# Altium schematic symbol library SG_SCH_MCU_Logics.SchLib: 63 symbols
Pins are listed as number, name and electrical type; pins without a type are passive.

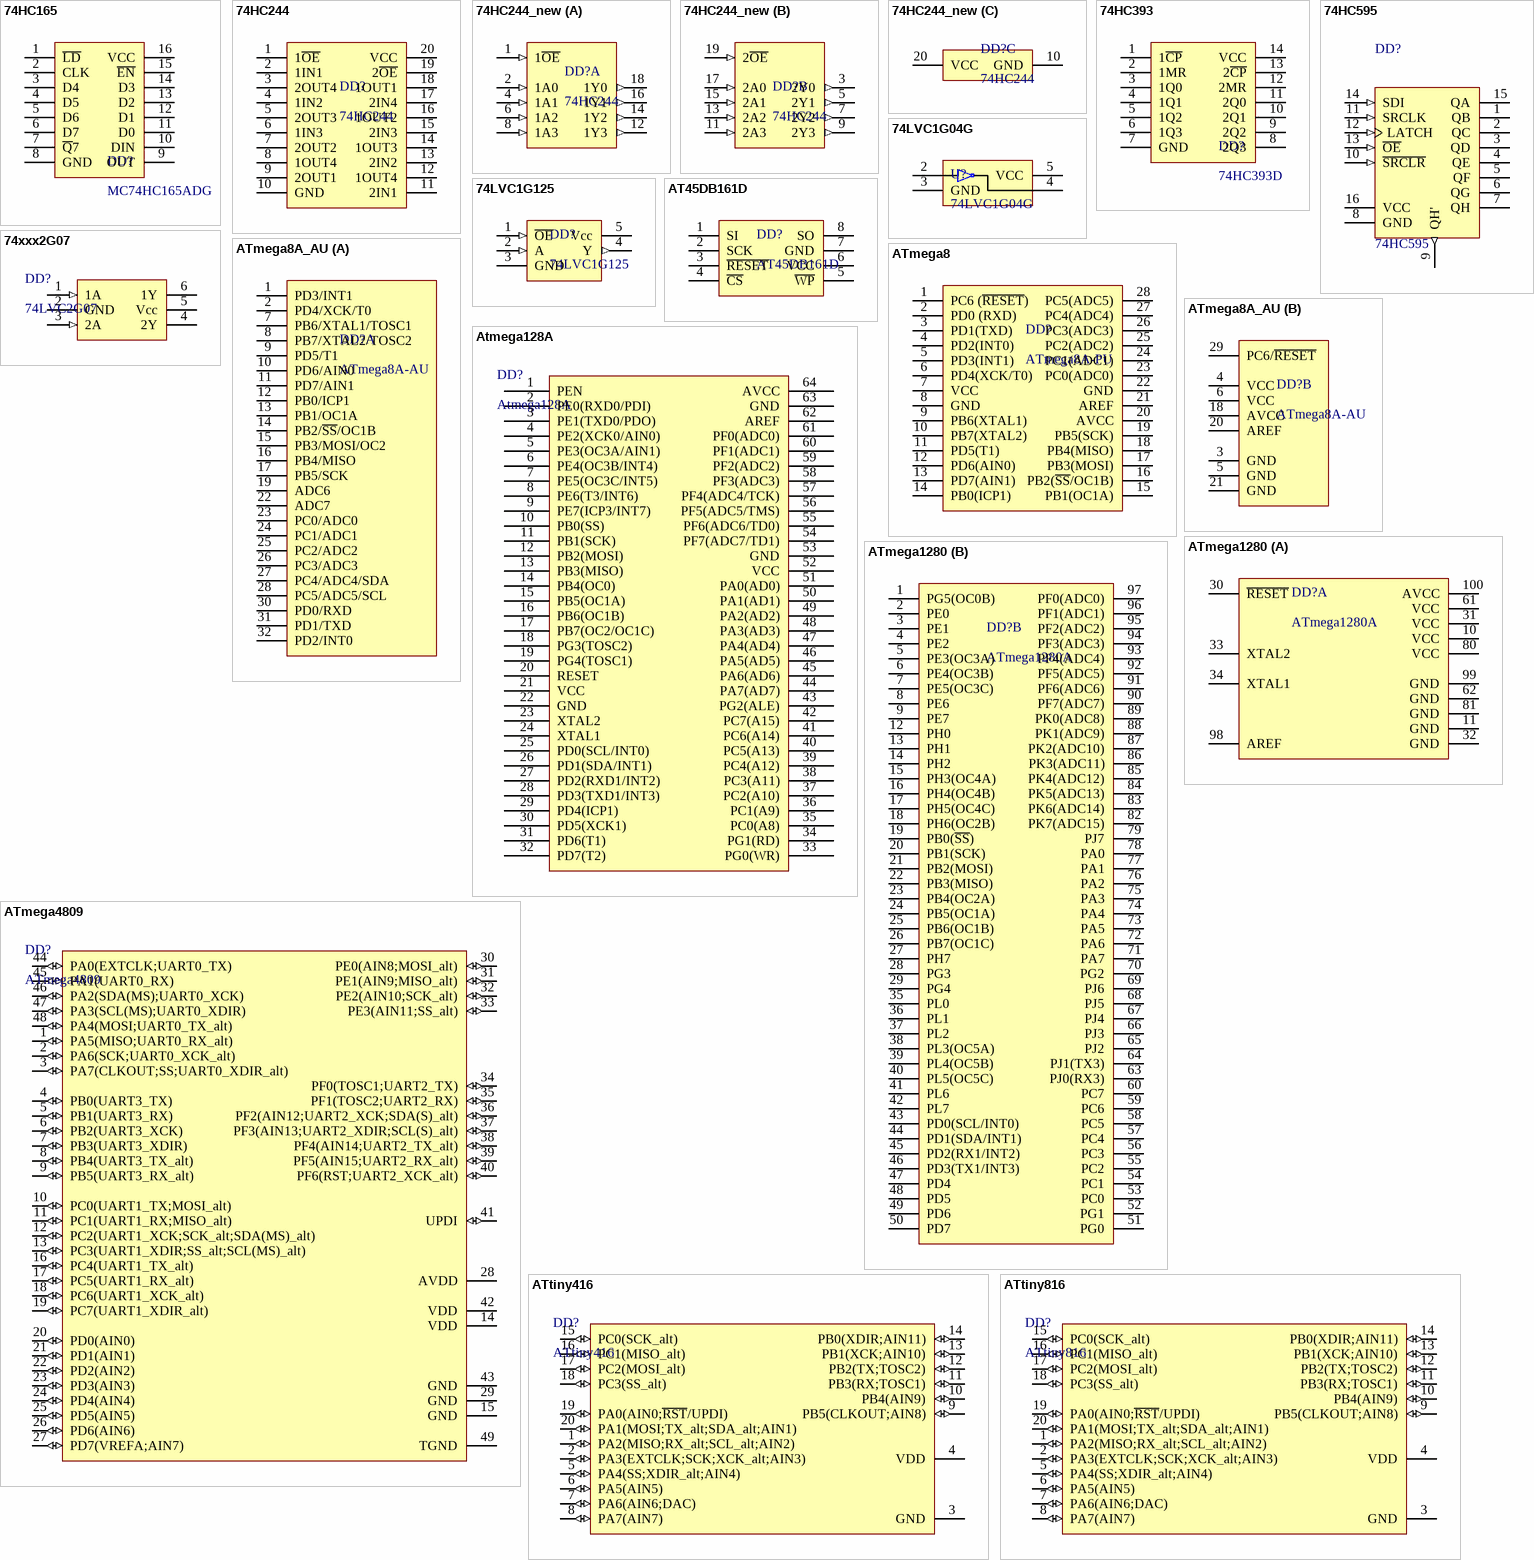
[diagram p0: symbols 74HC165 to ATtiny816]

## 74HC165
designator DD?, comment MC74HC165ADG
shift parallel to serial register; OriginalSource: AltTab; DefaultOrder: MC74HC165ADG; Order: *
footprint SO-16
pins: 1 ~{LD}, 2 CLK, 3 D4, 4 D5, 5 D6, 6 D7, 7 ~{Q}7, 8 GND, 9 OUT, 10 DIN, 11 D0, 12 D1, 13 D2, 14 D3, 15 ~{EN}, 16 VCC

## 74HC244
designator DD?
2 4bit logic buffers; OriginalSource: AltTab; Order: *
footprint SO-20_300mil
pins: 1 1~{OE}, 2 1IN1, 3 2OUT4, 4 1IN2, 5 2OUT3, 6 1IN3, 7 2OUT2, 8 1OUT4, 9 2OUT1, 10 GND, 11 2IN1, 12 1OUT4, 13 2IN2, 14 1OUT3, 15 2IN3, 16 1OUT2, 17 2IN4, 18 1OUT1, 19 2~{OE}, 20 VCC

## 74HC244_new
designator DD?, comment 74HC244
Hex Buffers And Line Drivers With 3-State Outputs; Order: *74HC244PW
footprint TSSOP-20
part A pins: 1 1~{OE} (in), 2 1A0 (in), 4 1A1 (in), 6 1A2 (in), 8 1A3 (in), 12 1Y3 (out), 14 1Y2 (out), 16 1Y1 (out), 18 1Y0 (out)
part B pins: 3 2Y0 (out), 5 2Y1 (out), 7 2Y2 (out), 9 2Y3 (out), 11 2A3 (in), 13 2A2 (in), 15 2A1 (in), 17 2A0 (in), 19 2~{OE} (in)
part C pins: 10 GND (power), 20 VCC (power)

## 74HC393
designator DD?, comment 74HC393D
2x4p counter; OriginalSource: AltTab; DefaultOrder: 74HC393D; Order: *
footprint SO-14
pins: 1 1~{CP}, 2 1MR, 3 1Q0, 4 1Q1, 5 1Q2, 6 1Q3, 7 GND, 8 2Q3, 9 2Q2, 10 2Q1, 11 2Q0, 12 2MR, 13 2~{CP}, 14 VCC

## 74HC595
designator DD?
8-Bit Shift Register with 3-State Output Registers; OriginalSource: AltTab; Order: *
footprint SO-16
footprint TSSOP-16
pins: 1 QB (hiz), 2 QC (hiz), 3 QD (hiz), 4 QE (hiz), 5 QF (hiz), 6 QG (hiz), 7 QH (hiz), 8 GND (power), 9 QH' (out), 10 ~{SRCLR} (in), 11 SRCLK (in), 12 LATCH (in), 13 ~{OE} (in), 14 SDI (in), 15 QA (hiz), 16 VCC (power)

## 74LVC1G04G
designator U?
NOT; DefaultOrder: 74LVC1G04GV.125; OriginalSource: AltTab; Order: *
footprint SOT753 (SOT23, 5-Leads, Body 3,1x3,0mm (max), Pitch 0,95mm, IPC Medium Density)
pins: 2 A, 3 GND, 4 Y, 5 VCC

## 74LVC1G125
designator DD?
SINGLE BUS BUFFER GATE WITH 3-STATE OUTPUT; Order: *SN74LVC1G125DBV; HelpURL: static.chipdip.ru/lib/092/DOC001092304.pdf
footprint SOT23-5
pins: 1 ~{OE} (in), 2 A (in), 3 GND (power), 4 Y (out), 5 Vcc (power)

## 74xxx2G07
designator DD?, comment 74LVC2G07
Dual Buffer and Driver With Open-Drain Outputs; DefaultOrder: SN74LVC2G07DC; PackageDrawing: DCK; OriginalSource: AltTab; Order: *
footprint SC-70-6 (Footprint not found)
pins: 1 1A (in), 2 GND (power), 3 2A (in), 4 2Y (oc), 5 Vcc (power), 6 1Y (oc)

## AT45DB161D
designator DD?
16megabit memory; OriginalSource: AltTab; DefaultOrder: AT45DB161D; Order: *
footprint SO-8 (Small Outline; 8 Leads; Body Width 3.9 mm; Pitch 1.27 mm)
pins: 1 SI, 2 SCK, 3 ~{RESET}, 4 ~{CS}, 5 ~{WP}, 6 VCC, 7 GND, 8 SO

## ATmega8
designator DD?, comment ATmega8A-PU
AVR 8-bit MCU; OriginalSource: AltTab; DefaultOrder: ATmega8A-PU; Order: *
footprint DIP-28 (Footprint not found)
pins: 1 PC6 (~{RESET}), 2 PD0 (RXD), 3 PD1(TXD), 4 PD2(INT0), 5 PD3(INT1), 6 PD4(XCK/T0), 7 VCC, 8 GND, 9 PB6(XTAL1), 10 PB7(XTAL2), 11 PD5(T1), 12 PD6(AIN0), 13 PD7(AIN1), 14 PB0(ICP1), 15 PB1(OC1A), 16 PB2(~{SS}/OC1B), 17 PB3(MOSI), 18 PB4(MISO), 19 PB5(SCK), 20 AVCC, 21 AREF, 22 GND, 23 PC0(ADC0), 24 PC1(ADC1), 25 PC2(ADC2), 26 PC3(ADC3), 27 PC4(ADC4), 28 PC5(ADC5)

## ATmega8A_AU
designator DD?, comment ATmega8A-AU
AVR 8-bit MCU; OriginalSource: AltTab; DefaultOrder: ATmega8A-AU; Order: *
footprint TQFP-32 (Footprint not found)
part A pins: 1 PD3/INT1, 2 PD4/XCK/T0, 7 PB6/XTAL1/TOSC1, 8 PB7/XTAL2/TOSC2, 9 PD5/T1, 10 PD6/AIN0, 11 PD7/AIN1, 12 PB0/ICP1, 13 PB1/OC1A, 14 PB2/~{SS}/OC1B, 15 PB3/MOSI/OC2, 16 PB4/MISO, 17 PB5/SCK, 19 ADC6, 22 ADC7, 23 PC0/ADC0, 24 PC1/ADC1, 25 PC2/ADC2, 26 PC3/ADC3, 27 PC4/ADC4/SDA, 28 PC5/ADC5/SCL, 30 PD0/RXD, 31 PD1/TXD, 32 PD2/INT0
part B pins: 3 GND, 4 VCC, 5 GND, 6 VCC, 18 AVCC, 20 AREF, 21 GND, 29 PC6/~{RESET}

## Atmega128A
designator DD?
!proverka, AVR 8-bit MCU; OriginalSource: AltTab
pins: 1 PEN, 2 PE0(RXD0/PDI), 3 PE1(TXD0/PDO), 4 PE2(XCK0/AIN0), 5 PE3(OC3A/AIN1), 6 PE4(OC3B/INT4), 7 PE5(OC3C/INT5), 8 PE6(T3/INT6), 9 PE7(ICP3/INT7), 10 PB0(SS), 11 PB1(SCK), 12 PB2(MOSI), 13 PB3(MISO), 14 PB4(OC0), 15 PB5(OC1A), 16 PB6(OC1B), 17 PB7(OC2/OC1C), 18 PG3(TOSC2), 19 PG4(TOSC1), 20 RESET, 21 VCC, 22 GND, 23 XTAL2, 24 XTAL1, 25 PD0(SCL/INT0), 26 PD1(SDA/INT1), 27 PD2(RXD1/INT2), 28 PD3(TXD1/INT3), 29 PD4(ICP1), 30 PD5(XCK1), 31 PD6(T1), 32 PD7(T2), 33 PG0(WR), 34 PG1(RD), 35 PC0(A8), 36 PC1(A9), 37 PC2(A10), 38 PC3(A11), 39 PC4(A12), 40 PC5(A13), 41 PC6(A14), 42 PC7(A15), 43 PG2(ALE), 44 PA7(AD7), 45 PA6(AD6), 46 PA5(AD5), 47 PA4(AD4), 48 PA3(AD3), 49 PA2(AD2), 50 PA1(AD1), 51 PA0(AD0), 52 VCC, 53 GND, 54 PF7(ADC7/TD1), 55 PF6(ADC6/TD0), 56 PF5(ADC5/TMS), 57 PF4(ADC4/TCK), 58 PF3(ADC3), 59 PF2(ADC2), 60 PF1(ADC1), 61 PF0(ADC0), 62 AREF, 63 GND, 64 AVCC

## ATmega1280
designator DD?, comment ATmega1280A
8bit mcu; DefaultOrder: ATmega1280-16AU; OriginalSource: AltTab; Order: *
footprint TQFP-100 (Footprint not found)
part A pins: 10 VCC, 11 GND, 30 ~{RESET}, 31 VCC, 32 GND, 33 XTAL2, 34 XTAL1, 61 VCC, 62 GND, 80 VCC, 81 GND, 98 AREF, 99 GND, 100 AVCC
part B pins: 1 PG5(OC0B), 2 PE0, 3 PE1, 4 PE2, 5 PE3(OC3A), 6 PE4(OC3B), 7 PE5(OC3C), 8 PE6, 9 PE7, 12 PH0, 13 PH1, 14 PH2, 15 PH3(OC4A), 16 PH4(OC4B), 17 PH5(OC4C), 18 PH6(OC2B), 19 PB0(~{SS}), 20 PB1(SCK), 21 PB2(MOSI), 22 PB3(MISO), 23 PB4(OC2A), 24 PB5(OC1A), 25 PB6(OC1B), 26 PB7(OC1C), 27 PH7, 28 PG3, 29 PG4, 35 PL0, 36 PL1, 37 PL2, 38 PL3(OC5A), 39 PL4(OC5B), 40 PL5(OC5C), 41 PL6, 42 PL7, 43 PD0(SCL/INT0), 44 PD1(SDA/INT1), 45 PD2(RX1/INT2), 46 PD3(TX1/INT3), 47 PD4, 48 PD5, 49 PD6, 50 PD7, 51 PG0, 52 PG1, 53 PC0, 54 PC1, 55 PC2, 56 PC3, 57 PC4, 58 PC5, 59 PC6, 60 PC7, 63 PJ0(RX3), 64 PJ1(TX3), 65 PJ2, 66 PJ3, 67 PJ4, 68 PJ5, 69 PJ6, 70 PG2, 71 PA7, 72 PA6, 73 PA5, 74 PA4, 75 PA3, 76 PA2, 77 PA1, 78 PA0, 79 PJ7, 82 PK7(ADC15), 83 PK6(ADC14), 84 PK5(ADC13), 85 PK4(ADC12), 86 PK3(ADC11), 87 PK2(ADC10), 88 PK1(ADC9), 89 PK0(ADC8), 90 PF7(ADC7), 91 PF6(ADC6), 92 PF5(ADC5), 93 PF4(ADC4), 94 PF3(ADC3), 95 PF2(ADC2), 96 PF1(ADC1), 97 PF0(ADC0)

## ATmega4809
designator DD?
OriginalSource: AltTab
footprint QFN-48M (QFN, 48-Leads, Body 6,00x6,00mm, Pitch 0,40mm, Thermal Pad 4,60x4,60mm, IPC Low Density)
pins: 1 PA5(MISO;UART0_RX_alt) (io), 2 PA6(SCK;UART0_XCK_alt) (io), 3 PA7(CLKOUT;SS;UART0_XDIR_alt) (io), 4 PB0(UART3_TX) (io), 5 PB1(UART3_RX) (io), 6 PB2(UART3_XCK) (io), 7 PB3(UART3_XDIR) (io), 8 PB4(UART3_TX_alt) (io), 9 PB5(UART3_RX_alt) (io), 10 PC0(UART1_TX;MOSI_alt) (io), 11 PC1(UART1_RX;MISO_alt) (io), 12 PC2(UART1_XCK;SCK_alt;SDA(MS)_alt) (io), 13 PC3(UART1_XDIR;SS_alt;SCL(MS)_alt) (io), 14 VDD (power), 15 GND (power), 16 PC4(UART1_TX_alt) (io), 17 PC5(UART1_RX_alt) (io), 18 PC6(UART1_XCK_alt) (io), 19 PC7(UART1_XDIR_alt) (io), 20 PD0(AIN0) (io), 21 PD1(AIN1) (io), 22 PD2(AIN2) (io), 23 PD3(AIN3) (io), 24 PD4(AIN4) (io), 25 PD5(AIN5) (io), 26 PD6(AIN6) (io), 27 PD7(VREFA;AIN7) (io), 28 AVDD (power), 29 GND (power), 30 PE0(AIN8;MOSI_alt) (io), 31 PE1(AIN9;MISO_alt) (io), 32 PE2(AIN10;SCK_alt) (io), 33 PE3(AIN11;SS_alt) (io), 34 PF0(TOSC1;UART2_TX) (io), 35 PF1(TOSC2;UART2_RX) (io), 36 PF2(AIN12;UART2_XCK;SDA(S)_alt) (io), 37 PF3(AIN13;UART2_XDIR;SCL(S)_alt) (io), 38 PF4(AIN14;UART2_TX_alt) (io), 39 PF5(AIN15;UART2_RX_alt) (io), 40 PF6(RST;UART2_XCK_alt) (io), 41 UPDI (io), 42 VDD (power), 43 GND (power), 44 PA0(EXTCLK;UART0_TX) (io), 45 PA1(UART0_RX) (io), 46 PA2(SDA(MS);UART0_XCK) (io), 47 PA3(SCL(MS);UART0_XDIR) (io), 48 PA4(MOSI;UART0_TX_alt) (io), 49 TGND (power)

## ATtiny416
designator DD?
AVR 8-bit MCU; Order: ATtiny416*; OriginalSource: AltTab
pins: 1 PA2(MISO;RX_alt;SCL_alt;AIN2) (io), 2 PA3(EXTCLK;SCK;XCK_alt;AIN3) (io), 3 GND (power), 4 VDD (power), 5 PA4(SS;XDIR_alt;AIN4) (io), 6 PA5(AIN5) (io), 7 PA6(AIN6;DAC) (io), 8 PA7(AIN7) (io), 9 PB5(CLKOUT;AIN8) (io), 10 PB4(AIN9) (io), 11 PB3(RX;TOSC1) (io), 12 PB2(TX;TOSC2) (io), 13 PB1(XCK;AIN10) (io), 14 PB0(XDIR;AIN11) (io), 15 PC0(SCK_alt) (io), 16 PC1(MISO_alt) (io), 17 PC2(MOSI_alt) (io), 18 PC3(SS_alt) (io), 19 PA0(AIN0;~{RST}/UPDI) (io), 20 PA1(MOSI;TX_alt;SDA_alt;AIN1) (io)

## ATtiny816
designator DD?
AVR 8-bit MCU; Order: ATtiny816*; OriginalSource: AltTab
pins: 1 PA2(MISO;RX_alt;SCL_alt;AIN2) (io), 2 PA3(EXTCLK;SCK;XCK_alt;AIN3) (io), 3 GND (power), 4 VDD (power), 5 PA4(SS;XDIR_alt;AIN4) (io), 6 PA5(AIN5) (io), 7 PA6(AIN6;DAC) (io), 8 PA7(AIN7) (io), 9 PB5(CLKOUT;AIN8) (io), 10 PB4(AIN9) (io), 11 PB3(RX;TOSC1) (io), 12 PB2(TX;TOSC2) (io), 13 PB1(XCK;AIN10) (io), 14 PB0(XDIR;AIN11) (io), 15 PC0(SCK_alt) (io), 16 PC1(MISO_alt) (io), 17 PC2(MOSI_alt) (io), 18 PC3(SS_alt) (io), 19 PA0(AIN0;~{RST}/UPDI) (io), 20 PA1(MOSI;TX_alt;SDA_alt;AIN1) (io)

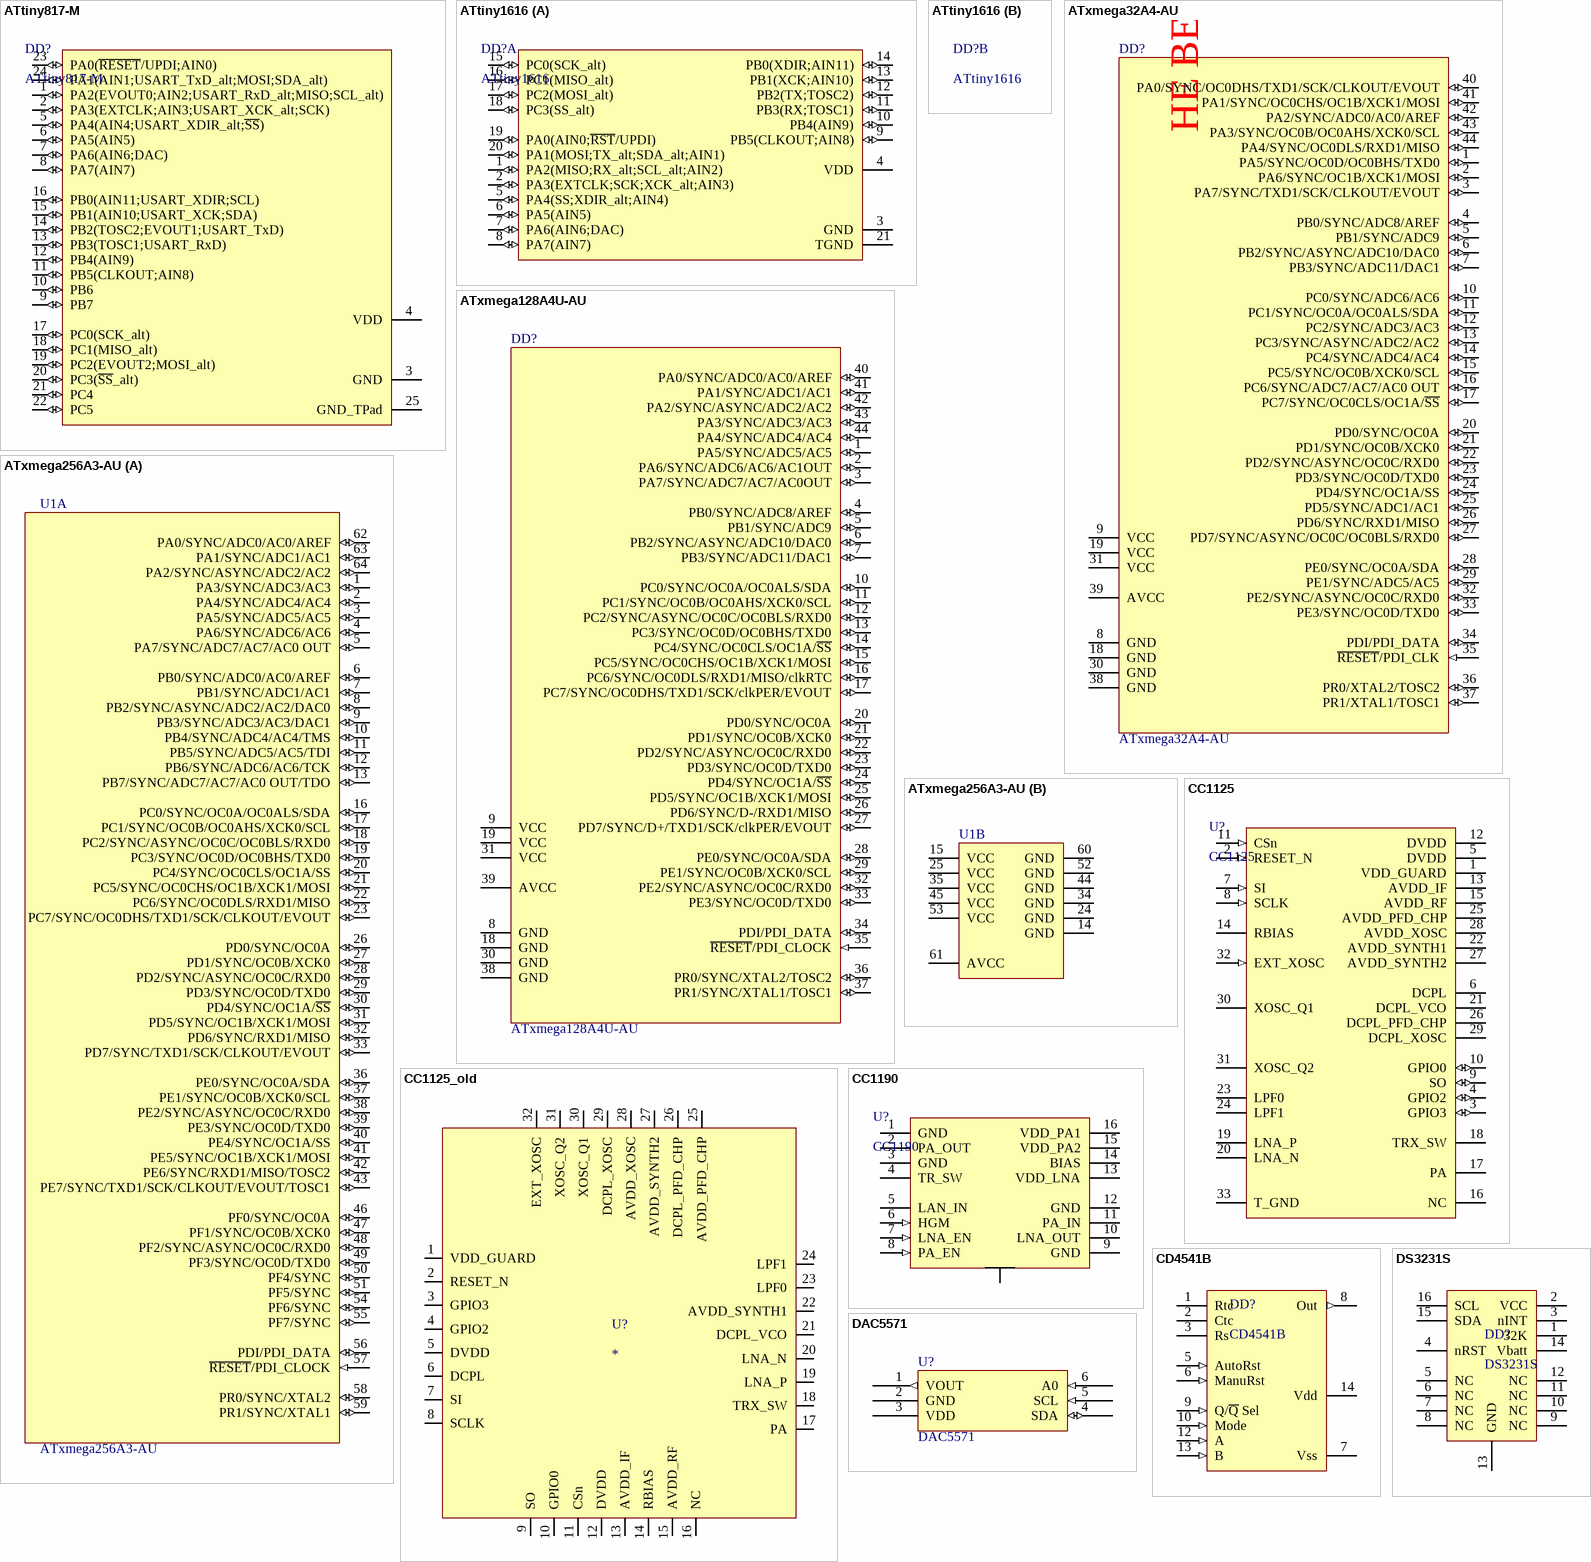
[diagram p1: symbols ATtiny817-M to DS3231S]

## ATtiny817-M
designator DD?
AVR 8-bit MCU; OriginalSource: AltTab; Order: *
pins: 1 PA2(EVOUT0;AIN2;USART_RxD_alt;MISO;SCL_alt) (io), 2 PA3(EXTCLK;AIN3;USART_XCK_alt;SCK) (io), 3 GND (power), 4 VDD (power), 5 PA4(AIN4;USART_XDIR_alt;~{SS}) (io), 6 PA5(AIN5) (io), 7 PA6(AIN6;DAC) (io), 8 PA7(AIN7) (io), 9 PB7 (io), 10 PB6 (io), 11 PB5(CLKOUT;AIN8) (io), 12 PB4(AIN9) (io), 13 PB3(TOSC1;USART_RxD) (io), 14 PB2(TOSC2;EVOUT1;USART_TxD) (io), 15 PB1(AIN10;USART_XCK;SDA) (io), 16 PB0(AIN11;USART_XDIR;SCL) (io), 17 PC0(SCK_alt) (io), 18 PC1(MISO_alt) (io), 19 PC2(EVOUT2;MOSI_alt) (io), 20 PC3(~{SS}_alt) (io), 21 PC4 (io), 22 PC5 (io), 23 PA0(~{RESET}/UPDI;AIN0) (io), 24 PA1(AIN1;USART_TxD_alt;MOSI;SDA_alt) (io), 25 GND_TPad (power)

## ATtiny1616
designator DD?
AVR 8-bit MCU; Order: ATtiny1616*; OriginalSource: AltTab
footprint QFN-20M (QFN, 20-Leads, Body 3,00x3,00mm, Pitch 0,40mm, Thermal Pad 1,70x1,70mm, IPC Low Density)
part A pins: 1 PA2(MISO;RX_alt;SCL_alt;AIN2) (io), 2 PA3(EXTCLK;SCK;XCK_alt;AIN3) (io), 3 GND (power), 4 VDD (power), 5 PA4(SS;XDIR_alt;AIN4) (io), 6 PA5(AIN5) (io), 7 PA6(AIN6;DAC) (io), 8 PA7(AIN7) (io), 9 PB5(CLKOUT;AIN8) (io), 10 PB4(AIN9) (io), 11 PB3(RX;TOSC1) (io), 12 PB2(TX;TOSC2) (io), 13 PB1(XCK;AIN10) (io), 14 PB0(XDIR;AIN11) (io), 15 PC0(SCK_alt) (io), 16 PC1(MISO_alt) (io), 17 PC2(MOSI_alt) (io), 18 PC3(SS_alt) (io), 19 PA0(AIN0;~{RST}/UPDI) (io), 20 PA1(MOSI;TX_alt;SDA_alt;AIN1) (io), 21 TGND (power)

## ATxmega32A4-AU
designator DD?
8/16-bit AVR XMEGA A4 Microcontroller, 1.6-3.6V, 32KB + 4KB Flash, 1KB EEPROM, 4KB SRAM, 44-pin TQFP, Industrial Grade (-40°C to 85°C), Pb-Free; OriginalSource: AltTab; HelpURL: http://www.atmel.com/dyn/resources/prod_documents/doc8069.pdf
footprint 44A_N (Thin QFP, 44-Leads, Body 10x10mm, Pitch 0.8mm, IPC Medium Density)
footprint 44A_L (Thin QFP, 44-Leads, Body 10x10mm, Pitch 0.8mm, IPC High Density)
footprint 44A_M (Thin QFP, 44-Leads, Body 10x10mm, Pitch 0.8mm, IPC Low Density)
pins: 1 PA5/SYNC/OC0D/OC0BHS/TXD0 (io), 2 PA6/SYNC/OC1B/XCK1/MOSI (io), 3 PA7/SYNC/TXD1/SCK/CLKOUT/EVOUT (io), 4 PB0/SYNC/ADC8/AREF (io), 5 PB1/SYNC/ADC9 (io), 6 PB2/SYNC/ASYNC/ADC10/DAC0 (io), 7 PB3/SYNC/ADC11/DAC1 (io), 8 GND (power), 9 VCC (power), 10 PC0/SYNC/ADC6/AC6 (io), 11 PC1/SYNC/OC0A/OC0ALS/SDA (io), 12 PC2/SYNC/ADC3/AC3 (io), 13 PC3/SYNC/ASYNC/ADC2/AC2 (io), 14 PC4/SYNC/ADC4/AC4 (io), 15 PC5/SYNC/OC0B/XCK0/SCL (io), 16 PC6/SYNC/ADC7/AC7/AC0 OUT (io), 17 PC7/SYNC/OC0CLS/OC1A/~{SS} (io), 18 GND (power), 19 VCC (power), 20 PD0/SYNC/OC0A (io), 21 PD1/SYNC/OC0B/XCK0 (io), 22 PD2/SYNC/ASYNC/OC0C/RXD0 (io), 23 PD3/SYNC/OC0D/TXD0 (io), 24 PD4/SYNC/OC1A/SS (io), 25 PD5/SYNC/ADC1/AC1 (io), 26 PD6/SYNC/RXD1/MISO (io), 27 PD7/SYNC/ASYNC/OC0C/OC0BLS/RXD0 (io), 28 PE0/SYNC/OC0A/SDA (io), 29 PE1/SYNC/ADC5/AC5 (io), 30 GND (power), 31 VCC (power), 32 PE2/SYNC/ASYNC/OC0C/RXD0 (io), 33 PE3/SYNC/OC0D/TXD0 (io), 34 PDI/PDI_DATA (io), 35 ~{RESET}/PDI_CLK (in), 36 PR0/XTAL2/TOSC2 (io), 37 PR1/XTAL1/TOSC1 (io), 38 GND (power), 39 AVCC (power), 40 PA0/SYNC/OC0DHS/TXD1/SCK/CLKOUT/EVOUT (io), 41 PA1/SYNC/OC0CHS/OC1B/XCK1/MOSI (io), 42 PA2/SYNC/ADC0/AC0/AREF (io), 43 PA3/SYNC/OC0B/OC0AHS/XCK0/SCL (io), 44 PA4/SYNC/OC0DLS/RXD1/MISO (io)
text: НЕ ВЕРИТЬ ПОДПИСЯМ!!!!

## ATxmega128A4U-AU
designator DD?
AVR XMEGA A4U Microcontroller, 1.6-3.6V, 32MHz, 128K + 8KB Flash, 2K EEPROM, 8K SRAM, 44-pin TQFP, Industrial Grade (-40°C to 85°C); OriginalSource: AltTab; Order: *; DefaultOrder: Atxmega128A4U-AU; HelpURL: http://www.atmel.com/dyn/resources/prod_documents/doc8387.pdf
footprint TQFP-44 (Footprint not found)
pins: 1 PA5/SYNC/ADC5/AC5 (io), 2 PA6/SYNC/ADC6/AC6/AC1OUT (io), 3 PA7/SYNC/ADC7/AC7/AC0OUT (io), 4 PB0/SYNC/ADC8/AREF (io), 5 PB1/SYNC/ADC9 (io), 6 PB2/SYNC/ASYNC/ADC10/DAC0 (io), 7 PB3/SYNC/ADC11/DAC1 (io), 8 GND (power), 9 VCC (power), 10 PC0/SYNC/OC0A/OC0ALS/SDA (io), 11 PC1/SYNC/OC0B/OC0AHS/XCK0/SCL (io), 12 PC2/SYNC/ASYNC/OC0C/OC0BLS/RXD0 (io), 13 PC3/SYNC/OC0D/OC0BHS/TXD0 (io), 14 PC4/SYNC/OC0CLS/OC1A/~{SS} (io), 15 PC5/SYNC/OC0CHS/OC1B/XCK1/MOSI (io), 16 PC6/SYNC/OC0DLS/RXD1/MISO/clkRTC (io), 17 PC7/SYNC/OC0DHS/TXD1/SCK/clkPER/EVOUT (io), 18 GND (power), 19 VCC (power), 20 PD0/SYNC/OC0A (io), 21 PD1/SYNC/OC0B/XCK0 (io), 22 PD2/SYNC/ASYNC/OC0C/RXD0 (io), 23 PD3/SYNC/OC0D/TXD0 (io), 24 PD4/SYNC/OC1A/~{SS} (io), 25 PD5/SYNC/OC1B/XCK1/MOSI (io), 26 PD6/SYNC/D-/RXD1/MISO (io), 27 PD7/SYNC/D+/TXD1/SCK/clkPER/EVOUT (io), 28 PE0/SYNC/OC0A/SDA (io), 29 PE1/SYNC/OC0B/XCK0/SCL (io), 30 GND (power), 31 VCC (power), 32 PE2/SYNC/ASYNC/OC0C/RXD0 (io), 33 PE3/SYNC/OC0D/TXD0 (io), 34 PDI/PDI_DATA (io), 35 ~{RESET}/PDI_CLOCK (in), 36 PR0/SYNC/XTAL2/TOSC2 (io), 37 PR1/SYNC/XTAL1/TOSC1 (io), 38 GND (power), 39 AVCC (power), 40 PA0/SYNC/ADC0/AC0/AREF (io), 41 PA1/SYNC/ADC1/AC1 (io), 42 PA2/SYNC/ASYNC/ADC2/AC2 (io), 43 PA3/SYNC/ADC3/AC3 (io), 44 PA4/SYNC/ADC4/AC4 (io)

## ATxmega256A3-AU
designator U1
8/16-bit AVR XMEGA A3 Microcontroller, 1.6-3.6V, 256KB + 8KB Flash, 4KB EEPROM, 16KB SRAM, 64-pin TQFP, Industrial Grade (-40°C to 85°C), Pb-Free; OriginalSource: AltTab; HelpURL: http://www.atmel.com/dyn/resources/prod_documents/doc8068.pdf
footprint 64A_N (Thin QFP, 64-Leads, Body 14x14mm, Pitch 0.8mm, IPC Medium Density)
footprint 64A_L (Thin QFP, 64-Leads, Body 14x14mm, Pitch 0.8mm, IPC High Density)
footprint 64A_M (Thin QFP, 64-Leads, Body 14x14mm, Pitch 0.8mm, IPC Low Density)
part A pins: 1 PA3/SYNC/ADC3/AC3 (io), 2 PA4/SYNC/ADC4/AC4 (io), 3 PA5/SYNC/ADC5/AC5 (io), 4 PA6/SYNC/ADC6/AC6 (io), 5 PA7/SYNC/ADC7/AC7/AC0 OUT (io), 6 PB0/SYNC/ADC0/AC0/AREF (io), 7 PB1/SYNC/ADC1/AC1 (io), 8 PB2/SYNC/ASYNC/ADC2/AC2/DAC0 (io), 9 PB3/SYNC/ADC3/AC3/DAC1 (io), 10 PB4/SYNC/ADC4/AC4/TMS (io), 11 PB5/SYNC/ADC5/AC5/TDI (io), 12 PB6/SYNC/ADC6/AC6/TCK (io), 13 PB7/SYNC/ADC7/AC7/AC0 OUT/TDO (io), 16 PC0/SYNC/OC0A/OC0ALS/SDA (io), 17 PC1/SYNC/OC0B/OC0AHS/XCK0/SCL (io), 18 PC2/SYNC/ASYNC/OC0C/OC0BLS/RXD0 (io), 19 PC3/SYNC/OC0D/OC0BHS/TXD0 (io), 20 PC4/SYNC/OC0CLS/OC1A/SS (io), 21 PC5/SYNC/OC0CHS/OC1B/XCK1/MOSI (io), 22 PC6/SYNC/OC0DLS/RXD1/MISO (io), 23 PC7/SYNC/OC0DHS/TXD1/SCK/CLKOUT/EVOUT (io), 26 PD0/SYNC/OC0A (io), 27 PD1/SYNC/OC0B/XCK0 (io), 28 PD2/SYNC/ASYNC/OC0C/RXD0 (io), 29 PD3/SYNC/OC0D/TXD0 (io), 30 PD4/SYNC/OC1A/~{SS} (io), 31 PD5/SYNC/OC1B/XCK1/MOSI (io), 32 PD6/SYNC/RXD1/MISO (io), 33 PD7/SYNC/TXD1/SCK/CLKOUT/EVOUT (io), 36 PE0/SYNC/OC0A/SDA (io), 37 PE1/SYNC/OC0B/XCK0/SCL (io), 38 PE2/SYNC/ASYNC/OC0C/RXD0 (io), 39 PE3/SYNC/OC0D/TXD0 (io), 40 PE4/SYNC/OC1A/SS (io), 41 PE5/SYNC/OC1B/XCK1/MOSI (io), 42 PE6/SYNC/RXD1/MISO/TOSC2 (io), 43 PE7/SYNC/TXD1/SCK/CLKOUT/EVOUT/TOSC1 (io), 46 PF0/SYNC/OC0A (io), 47 PF1/SYNC/OC0B/XCK0 (io), 48 PF2/SYNC/ASYNC/OC0C/RXD0 (io), 49 PF3/SYNC/OC0D/TXD0 (io), 50 PF4/SYNC (io), 51 PF5/SYNC (io), 54 PF6/SYNC (io), 55 PF7/SYNC (io), 56 PDI/PDI_DATA (io), 57 ~{RESET}/PDI_CLOCK (in), 58 PR0/SYNC/XTAL2 (io), 59 PR1/SYNC/XTAL1 (io), 62 PA0/SYNC/ADC0/AC0/AREF (io), 63 PA1/SYNC/ADC1/AC1 (io), 64 PA2/SYNC/ASYNC/ADC2/AC2 (io)
part B pins: 14 GND (power), 15 VCC (power), 24 GND (power), 25 VCC (power), 34 GND (power), 35 VCC (power), 44 GND (power), 45 VCC (power), 52 GND (power), 53 VCC (power), 60 GND (power), 61 AVCC (power)

## CC1125
designator U?
RF; Order: CC1125*; OriginalSource: AltTab
footprint QFN-32M_CC1125 (QFN, 32-Leads, Body 5,00x5,00mm, Pitch 0,50mm, Thermal Pad 3,50x3,50mm, IPC Low Density)
pins: 1 VDD_GUARD (power), 2 RESET_N (in), 3 GPIO3 (io), 4 GPIO2 (io), 5 DVDD (power), 6 DCPL (power), 7 SI (in), 8 SCLK (in), 9 SO (io), 10 GPIO0 (io), 11 CSn (in), 12 DVDD (power), 13 AVDD_IF (power), 14 RBIAS, 15 AVDD_RF (power), 16 NC, 17 PA, 18 TRX_SW, 19 LNA_P, 20 LNA_N, 21 DCPL_VCO (power), 22 AVDD_SYNTH1 (power), 23 LPF0, 24 LPF1, 25 AVDD_PFD_CHP (power), 26 DCPL_PFD_CHP (power), 27 AVDD_SYNTH2 (power), 28 AVDD_XOSC (power), 29 DCPL_XOSC (power), 30 XOSC_Q1, 31 XOSC_Q2, 32 EXT_XOSC (in), 33 T_GND

## CC1125_old
designator U?
трансивер; OriginalSource: AltTab
footprint CC1125 QFN (CC1125 PVQFN)
pins: 1 VDD_GUARD, 2 RESET_N, 3 GPIO3, 4 GPIO2, 5 DVDD, 6 DCPL, 7 SI, 8 SCLK, 9 SO, 10 GPIO0, 11 CSn, 12 DVDD, 13 AVDD_IF, 14 RBIAS, 15 AVDD_RF, 16 NC, 17 PA, 18 TRX_SW, 19 LNA_P, 20 LNA_N, 21 DCPL_VCO, 22 AVDD_SYNTH1, 23 LPF0, 24 LPF1, 25 AVDD_PFD_CHP, 26 DCPL_PFD_CHP, 27 AVDD_SYNTH2, 28 AVDD_XOSC, 29 DCPL_XOSC, 30 XOSC_Q1, 31 XOSC_Q2, 32 EXT_XOSC

## CC1190
designator U?
RF amp; Order: CC1190*; OriginalSource: AltTab
footprint QFN-16M_CC1190 (QFN, 16-Leads, Body 4,00x4,00mm, Pitch 0,65mm, Thermal Pad 2,16x2,16mm, IPC Low Density)
pins: 1 GND (power), 2 PA_OUT, 3 GND (power), 4 TR_SW, 5 LAN_IN, 6 HGM (in), 7 LNA_EN (in), 8 PA_EN (in), 9 GND, 10 LNA_OUT, 11 PA_IN, 12 GND, 13 VDD_LNA (power), 14 BIAS, 15 VDD_PA2 (power), 16 VDD_PA1 (power), 17 GND

## CD4541B
designator DD?
CMOS Programmable Timer; Order: *CD4541BM/TR
footprint SO-14
footprint DIP-14 (Footprint not found)
pins: 1 Rtc, 2 Ctc, 3 Rs, 5 AutoRst (in), 6 ManuRst (in), 7 Vss (power), 8 Out (out), 9 Q/~{Q} Sel (in), 10 Mode (in), 12 A (in), 13 B (in), 14 Vdd (power)

## DAC5571
designator U?
Order: DAC5571
pins: 1 VOUT (out), 2 GND (power), 3 VDD (power), 4 SDA (io), 5 SCL (in), 6 A0 (in)

## DS3231S
designator DD?
RTC; OriginalSource: AltTab; Order: *; DefaultOrder: *
pins: 1 32K, 2 VCC, 3 nINT, 4 nRST, 5 NC, 6 NC, 7 NC, 8 NC, 9 NC, 10 NC, 11 NC, 12 NC, 13 GND, 14 Vbatt, 15 SDA, 16 SCL

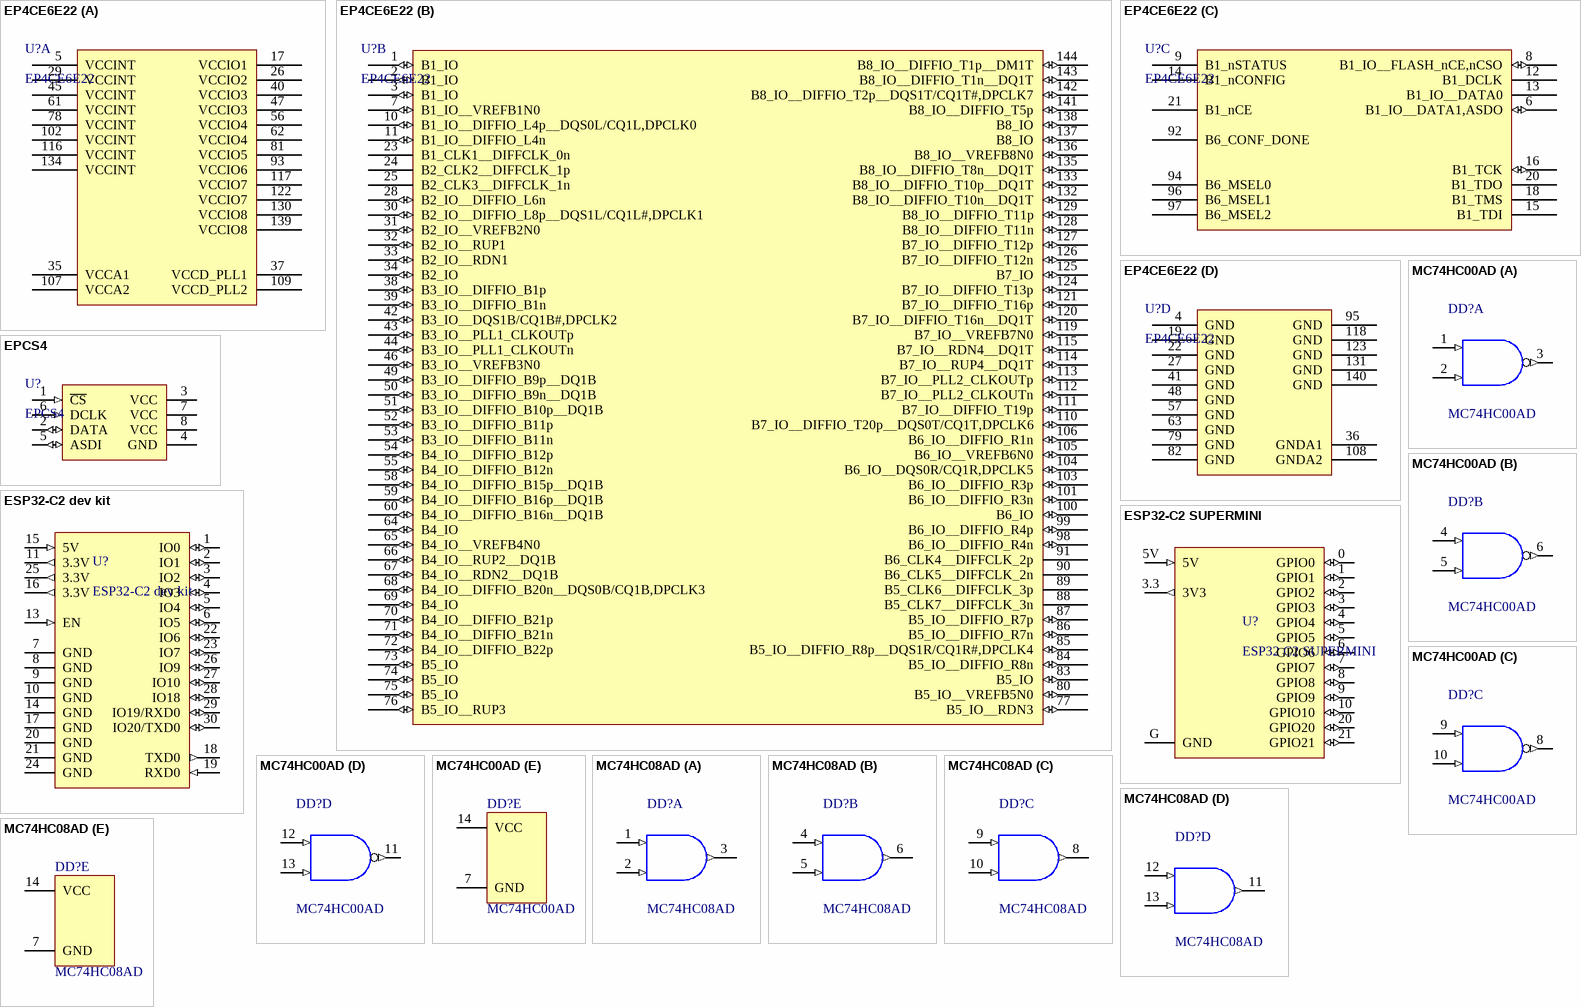
[diagram p2: symbols EP4CE6E22 to MC74HC08AD]

## EP4CE6E22
designator U?
FPGA Cyclone IV EQFP-144; OriginalSource: AltTab; Order: *
footprint EQFP-144L_EP4CE6E22 (SQFP, 144-Leads, Body 20,00x20,00mm, Pitch 0,50mm, IPC Medium Density)
footprint EQFP-144M_EP4CE6E22
footprint EQFP-144N_EP4CE6E22
part A pins: 5 VCCINT (power), 17 VCCIO1 (power), 26 VCCIO2 (power), 29 VCCINT (power), 35 VCCA1 (power), 37 VCCD_PLL1 (power), 40 VCCIO3 (power), 45 VCCINT (power), 47 VCCIO3 (power), 56 VCCIO4 (power), 61 VCCINT (power), 62 VCCIO4 (power), 78 VCCINT (power), 81 VCCIO5 (power), 93 VCCIO6 (power), 102 VCCINT (power), 107 VCCA2 (power), 109 VCCD_PLL2 (power), 116 VCCINT (power), 117 VCCIO7 (power), 122 VCCIO7 (power), 130 VCCIO8 (power), 134 VCCINT (power), 139 VCCIO8 (power)
part B pins: 1 B1_IO (io), 2 B1_IO (io), 3 B1_IO (io), 7 B1_IO__VREFB1N0 (io), 10 B1_IO__DIFFIO_L4p__DQS0L/CQ1L,DPCLK0 (io), 11 B1_IO__DIFFIO_L4n (io), 23 B1_CLK1__DIFFCLK_0n, 24 B2_CLK2__DIFFCLK_1p, 25 B2_CLK3__DIFFCLK_1n, 28 B2_IO__DIFFIO_L6n (io), 30 B2_IO__DIFFIO_L8p__DQS1L/CQ1L#,DPCLK1 (io), 31 B2_IO__VREFB2N0 (io), 32 B2_IO__RUP1 (io), 33 B2_IO__RDN1 (io), 34 B2_IO (io), 38 B3_IO__DIFFIO_B1p (io), 39 B3_IO__DIFFIO_B1n (io), 42 B3_IO__DQS1B/CQ1B#,DPCLK2 (io), 43 B3_IO__PLL1_CLKOUTp (io), 44 B3_IO__PLL1_CLKOUTn (io), 46 B3_IO__VREFB3N0 (io), 49 B3_IO__DIFFIO_B9p__DQ1B (io), 50 B3_IO__DIFFIO_B9n__DQ1B (io), 51 B3_IO__DIFFIO_B10p__DQ1B (io), 52 B3_IO__DIFFIO_B11p (io), 53 B3_IO__DIFFIO_B11n (io), 54 B4_IO__DIFFIO_B12p (io), 55 B4_IO__DIFFIO_B12n (io), 58 B4_IO__DIFFIO_B15p__DQ1B (io), 59 B4_IO__DIFFIO_B16p__DQ1B (io), 60 B4_IO__DIFFIO_B16n__DQ1B (io), 64 B4_IO (io), 65 B4_IO__VREFB4N0 (io), 66 B4_IO__RUP2__DQ1B (io), 67 B4_IO__RDN2__DQ1B (io), 68 B4_IO__DIFFIO_B20n__DQS0B/CQ1B,DPCLK3 (io), 69 B4_IO (io), 70 B4_IO__DIFFIO_B21p (io), 71 B4_IO__DIFFIO_B21n (io), 72 B4_IO__DIFFIO_B22p (io), 73 B5_IO (io), 74 B5_IO (io), 75 B5_IO (io), 76 B5_IO__RUP3 (io), 77 B5_IO__RDN3 (io), 80 B5_IO__VREFB5N0 (io), 83 B5_IO (io), 84 B5_IO__DIFFIO_R8n (io), 85 B5_IO__DIFFIO_R8p__DQS1R/CQ1R#,DPCLK4 (io), 86 B5_IO__DIFFIO_R7n (io), 87 B5_IO__DIFFIO_R7p (io), 88 B5_CLK7__DIFFCLK_3n, 89 B5_CLK6__DIFFCLK_3p, 90 B6_CLK5__DIFFCLK_2n, 91 B6_CLK4__DIFFCLK_2p, 98 B6_IO__DIFFIO_R4n (io), 99 B6_IO__DIFFIO_R4p (io), 100 B6_IO (io), 101 B6_IO__DIFFIO_R3n (io), 103 B6_IO__DIFFIO_R3p (io), 104 B6_IO__DQS0R/CQ1R,DPCLK5 (io), 105 B6_IO__VREFB6N0 (io), 106 B6_IO__DIFFIO_R1n (io), 110 B7_IO__DIFFIO_T20p__DQS0T/CQ1T,DPCLK6 (io), 111 B7_IO__DIFFIO_T19p (io), 112 B7_IO__PLL2_CLKOUTn (io), 113 B7_IO__PLL2_CLKOUTp (io), 114 B7_IO__RUP4__DQ1T (io), 115 B7_IO__RDN4__DQ1T (io), 119 B7_IO__VREFB7N0 (io), 120 B7_IO__DIFFIO_T16n__DQ1T (io), 121 B7_IO__DIFFIO_T16p (io), 124 B7_IO__DIFFIO_T13p (io), 125 B7_IO (io), 126 B7_IO__DIFFIO_T12n (io), 127 B7_IO__DIFFIO_T12p (io), 128 B8_IO__DIFFIO_T11n (io), 129 B8_IO__DIFFIO_T11p (io), 132 B8_IO__DIFFIO_T10n__DQ1T (io), 133 B8_IO__DIFFIO_T10p__DQ1T (io), 135 B8_IO__DIFFIO_T8n__DQ1T (io), 136 B8_IO__VREFB8N0 (io), 137 B8_IO (io), 138 B8_IO (io), 141 B8_IO__DIFFIO_T5p (io), 142 B8_IO__DIFFIO_T2p__DQS1T/CQ1T#,DPCLK7 (io), 143 B8_IO__DIFFIO_T1n__DQ1T (io), 144 B8_IO__DIFFIO_T1p__DM1T (io)
part C pins: 6 B1_IO__DATA1,ASDO (io), 8 B1_IO__FLASH_nCE,nCSO (io), 9 B1_nSTATUS, 12 B1_DCLK, 13 B1_IO__DATA0, 14 B1_nCONFIG, 15 B1_TDI, 16 B1_TCK (io), 18 B1_TMS, 20 B1_TDO, 21 B1_nCE, 92 B6_CONF_DONE, 94 B6_MSEL0, 96 B6_MSEL1, 97 B6_MSEL2
part D pins: 4 GND (power), 19 GND (power), 22 GND (power), 27 GND (power), 36 GNDA1 (power), 41 GND (power), 48 GND (power), 57 GND (power), 63 GND (power), 79 GND (power), 82 GND (power), 95 GND (power), 108 GNDA2 (power), 118 GND (power), 123 GND (power), 131 GND (power), 140 GND (power)

## EPCS4
designator U?
Serial Configuration (EPCS) Devices for FPGA; OriginalSource: AltTab; Order: *
pins: 1 ~{CS} (in), 2 DATA (io), 3 VCC (power), 4 GND (power), 5 ASDI (io), 6 DCLK (in), 7 VCC (power), 8 VCC (power)

## ESP32-C2 dev kit
designator U?
Order: ESP32-C2 dev kit
footprint ESP32-C2-dev-kit (Footprint not found)
pins: 1 IO0 (io), 2 IO1 (io), 3 IO2 (io), 4 IO3 (io), 5 IO4 (io), 6 IO5 (io), 7 GND (power), 8 GND (power), 9 GND (power), 10 GND (power), 11 3.3V (out), 13 EN (in), 14 GND (power), 15 5V (in), 16 3.3V (out), 17 GND (power), 18 TXD0 (out), 19 RXD0 (in), 20 GND (power), 21 GND (power), 22 IO6 (io), 23 IO7 (io), 24 GND (power), 25 3.3V (out), 26 IO9 (io), 27 IO10 (io), 28 IO18 (io), 29 IO19/RXD0 (io), 30 IO20/TXD0 (io)

## ESP32-C2 SUPERMINI
designator U?, comment ESP32 C2 SUPERMINI
Super tiny ESP32-C2 board; Order: *ESP32 C2 Supermini
footprint ESP32-C2_SUPERMINI
footprint ESP32-C2_SUPERMINI_DIP
pins: 0 GPIO0 (io), 1 GPIO1 (io), 2 GPIO2 (io), 3 GPIO3 (io), 3.3 3V3 (out), 4 GPIO4 (io), 5 GPIO5 (io), 5V (in), 6 GPIO6 (io), 7 GPIO7 (io), 8 GPIO8 (io), 9 GPIO9 (io), 10 GPIO10 (io), 20 GPIO20 (io), 21 GPIO21 (io), G GND (power)

## MC74HC00AD
designator DD?
Quad 2-Input NAND Gate; OriginalSource: OBC; HelpURL: http://www.onsemi.com/pub/Collateral/MC74HC00A-D.PDF; Order: *; DefaultOrder: MC74HC00AD
footprint SO-14
part A pins: 1 A (in), 2 B (in), 3 ~{Y} (out)
part B pins: 4 A (in), 5 B (in), 6 ~{Y} (out)
part C pins: 8 ~{Y} (out), 9 A (in), 10 B (in)
part D pins: 11 ~{Y} (out), 12 A (in), 13 B (in)
part E pins: 7 GND (power), 14 VCC (power)

## MC74HC08AD
designator DD?
Quad 2-Input AND Gate; OriginalSource: OBC; HelpURL: http://www.onsemi.com/pub/Collateral/MC74HC08A-D.PDF; Order: *; DefaultOrder: MC74HC08AD
footprint SO-14
part A pins: 1 A (in), 2 B (in), 3 Y (out)
part B pins: 4 A (in), 5 B (in), 6 Y (out)
part C pins: 8 Y (out), 9 A (in), 10 B (in)
part D pins: 11 Y (out), 12 A (in), 13 B (in)
part E pins: 7 GND (power), 14 VCC (power)

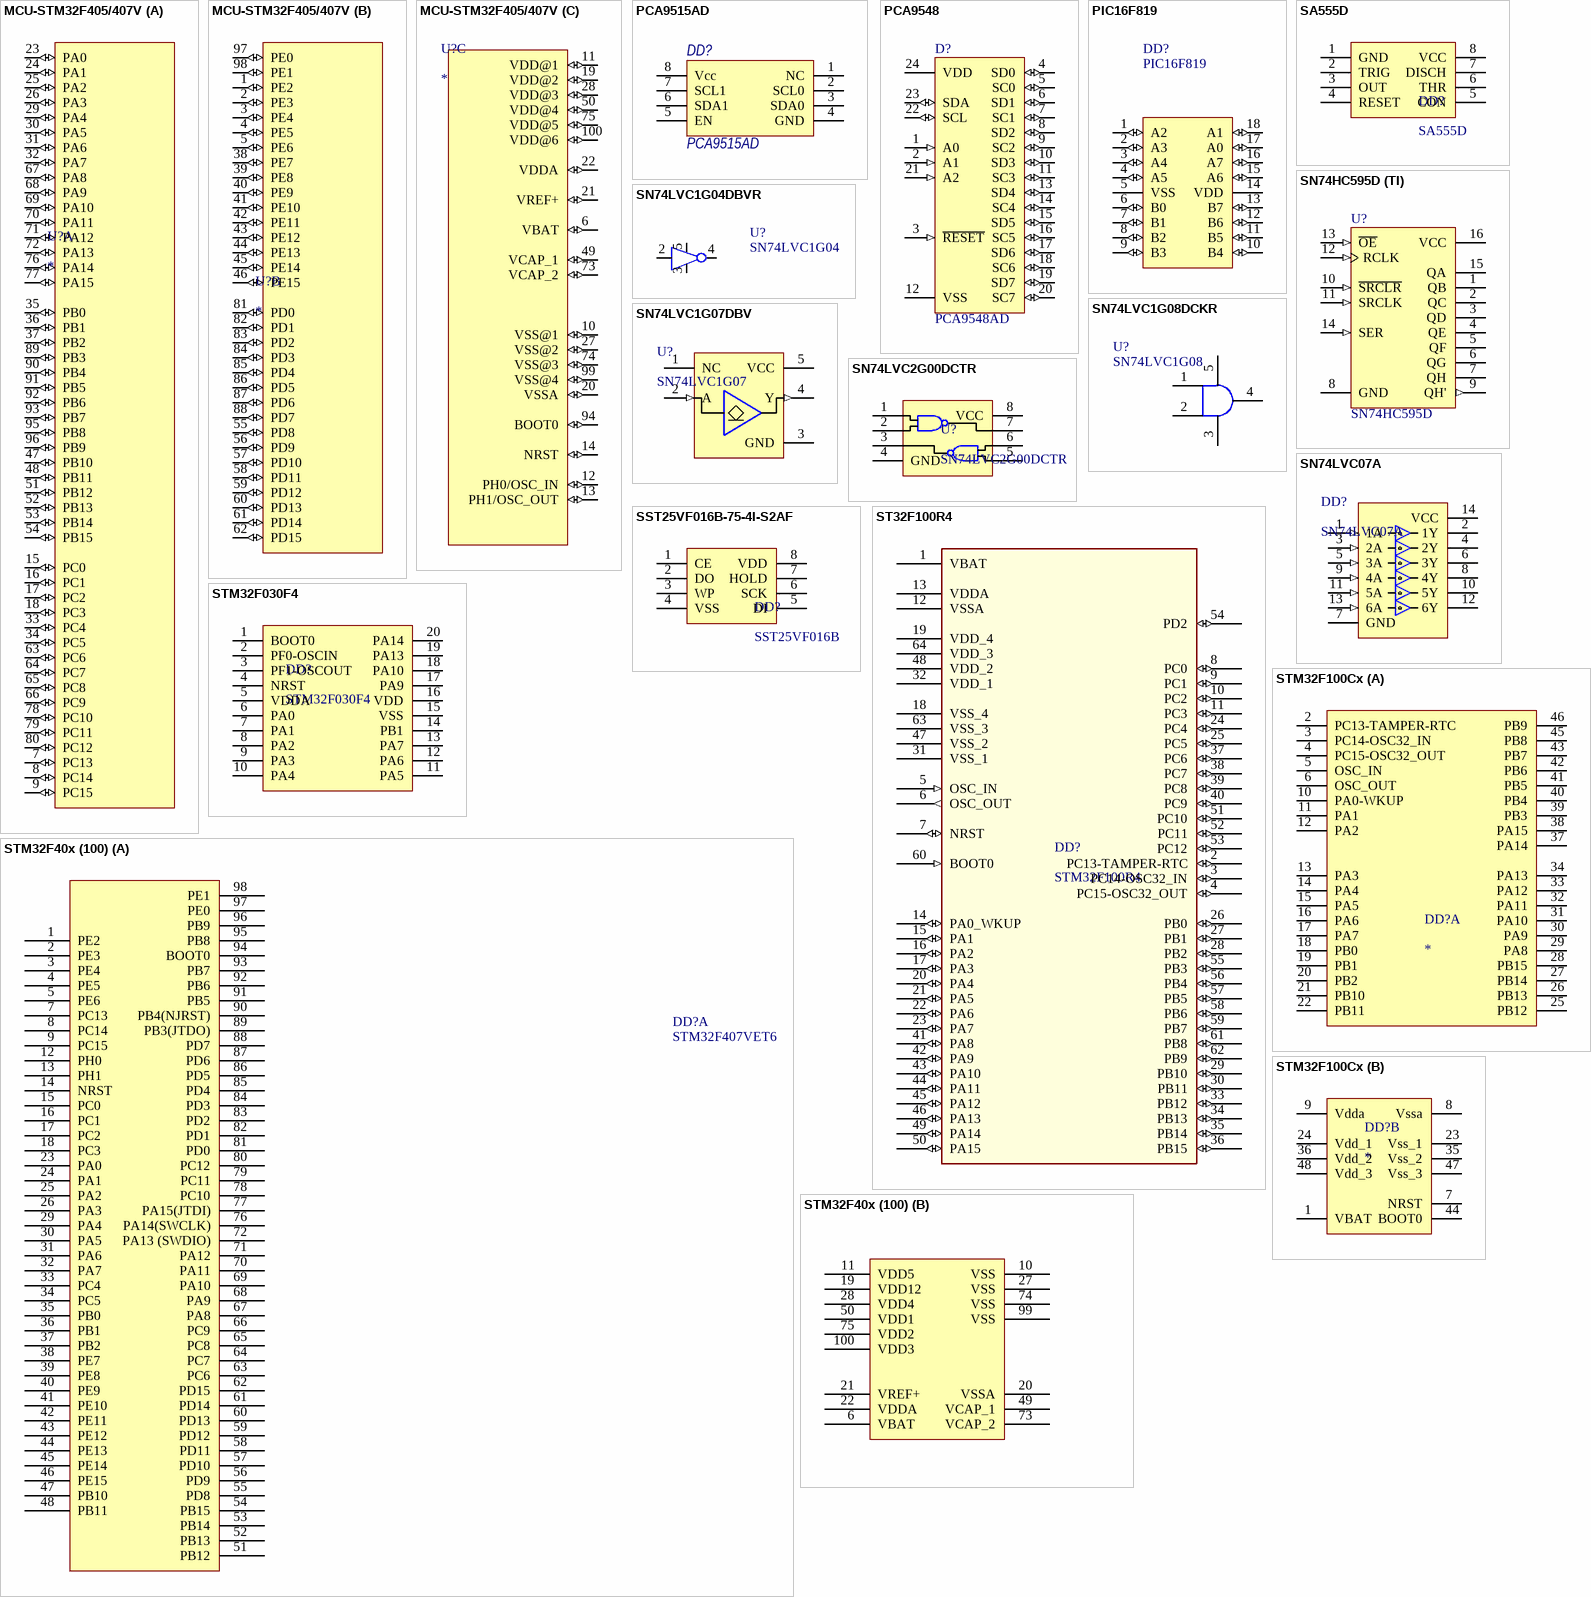
[diagram p3: symbols MCU-STM32F405/407V to STM32F100Cx]

## MCU-STM32F405/407V
designator U?
ARM Cortex-M4 STM32F4 Microcontroller IC 32-Bit Single-Core 168MHz 100-LQFP (14x14); Order: *
footprint LQFP-100 (SQFP, 100-Leads, Body 16,7x16,7mm (max), Pitch 0,50mm, IPC Medium Density)
part A pins: 7 PC13 (io), 8 PC14 (io), 9 PC15 (io), 15 PC0 (io), 16 PC1 (io), 17 PC2 (io), 18 PC3 (io), 23 PA0 (io), 24 PA1 (io), 25 PA2 (io), 26 PA3 (io), 29 PA4 (io), 30 PA5 (io), 31 PA6 (io), 32 PA7 (io), 33 PC4 (io), 34 PC5 (io), 35 PB0 (io), 36 PB1 (io), 37 PB2 (io), 47 PB10 (io), 48 PB11 (io), 51 PB12 (io), 52 PB13 (io), 53 PB14 (io), 54 PB15 (io), 63 PC6 (io), 64 PC7 (io), 65 PC8 (io), 66 PC9 (io), 67 PA8 (io), 68 PA9 (io), 69 PA10 (io), 70 PA11 (io), 71 PA12 (io), 72 PA13 (io), 76 PA14 (io), 77 PA15 (io), 78 PC10 (io), 79 PC11 (io), 80 PC12 (io), 89 PB3 (io), 90 PB4 (io), 91 PB5 (io), 92 PB6 (io), 93 PB7 (io), 95 PB8 (io), 96 PB9 (io)
part B pins: 1 PE2 (io), 2 PE3 (io), 3 PE4 (io), 4 PE5 (io), 5 PE6 (io), 38 PE7 (io), 39 PE8 (io), 40 PE9 (io), 41 PE10 (io), 42 PE11 (io), 43 PE12 (io), 44 PE13 (io), 45 PE14 (io), 46 PE15 (io), 55 PD8 (io), 56 PD9 (io), 57 PD10 (io), 58 PD11 (io), 59 PD12 (io), 60 PD13 (io), 61 PD14 (io), 62 PD15 (io), 81 PD0 (io), 82 PD1 (io), 83 PD2 (io), 84 PD3 (io), 85 PD4 (io), 86 PD5 (io), 87 PD6 (io), 88 PD7 (io), 97 PE0 (io), 98 PE1 (io)
part C pins: 6 VBAT (io), 10 VSS@1 (io), 11 VDD@1 (io), 12 PH0/OSC_IN (io), 13 PH1/OSC_OUT (io), 14 NRST (io), 19 VDD@2 (io), 20 VSSA (io), 21 VREF+ (io), 22 VDDA (io), 27 VSS@2 (io), 28 VDD@3 (io), 49 VCAP_1 (io), 50 VDD@4 (io), 73 VCAP_2 (io), 74 VSS@3 (io), 75 VDD@5 (io), 94 BOOT0 (io), 99 VSS@4 (io), 100 VDD@6 (io)

## PCA9515AD
designator DD?
OriginalSource: AltTab; DefaultOrder: PCA9515AD; Order: *
footprint SO-8 (Small Outline; 8 Leads; Body Width 3.9 mm; Pitch 1.27 mm)
pins: 1 NC (oc), 2 SCL0 (oc), 3 SDA0 (oc), 4 GND (power), 5 EN (oc), 6 SDA1 (oc), 7 SCL1 (oc), 8 Vcc (power)

## PCA9548
designator D?, comment PCA9548AD
I2C bus multiplexer; Order: *PCA9548AD
footprint SO-24 (SOIC, 24-Leads, Body 15,40x7,50mm, Pitch 1,27mm, IPC Medium Density)
pins: 1 A0 (in), 2 A1 (in), 3 ~{RESET} (in), 4 SD0 (io), 5 SC0 (io), 6 SD1 (io), 7 SC1 (io), 8 SD2 (io), 9 SC2 (io), 10 SD3 (io), 11 SC3 (io), 12 VSS (power), 13 SD4 (io), 14 SC4 (io), 15 SD5 (io), 16 SC5 (io), 17 SD6 (io), 18 SC6 (io), 19 SD7 (io), 20 SC7 (io), 21 A2 (in), 22 SCL (io), 23 SDA (io), 24 VDD (power)

## PIC16F819
designator DD?
8bit PIC-16 MCU; DefaultOrder: PIC16F819-I/P; OriginalSource: RPiCNC; Order: *
footprint DIP-18 (Footprint not found)
pins: 1 A2 (io), 2 A3 (io), 3 A4 (io), 4 A5 (io), 5 VSS (power), 6 B0 (io), 7 B1 (io), 8 B2 (io), 9 B3 (io), 10 B4 (io), 11 B5 (io), 12 B6 (io), 13 B7 (io), 14 VDD (power), 15 A6 (io), 16 A7 (io), 17 A0 (io), 18 A1 (io)

## SA555D
designator DD?
timer; DefaultOrder: SA555DR; OriginalSource: AltTab; Order: *
footprint SO-8 (Small Outline; 8 Leads; Body Width 3.9 mm; Pitch 1.27 mm)
pins: 1 GND, 2 TRIG, 3 OUT, 4 RESET, 5 CON, 6 THR, 7 DISCH, 8 VCC

## SN74HC595D (TI)
designator U?, comment SN74HC595D
8-Bit Shift Register with 3-State Output Registers; OriginalSource: AltTab; DefaultOrder: SN74HC595D; Order: *
footprint D016_N (SOIC, 16-Leads, Body 9.9x3.9mm, Pitch 1.27mm, IPC Medium Density)
footprint D016_L (SOIC, 16-Leads, Body 9.9x3.9mm, Pitch 1.27mm, IPC High Density)
footprint D016_M (SOIC, 16-Leads, Body 9.9x3.9mm, Pitch 1.27mm, IPC Low Density)
3D model D016 (16-Pin Small Outline Integrated Circuit 1.27 mm Pitch)
signal-integrity model SN74HC595D
pins: 1 QB (hiz), 2 QC (hiz), 3 QD (hiz), 4 QE (hiz), 5 QF (hiz), 6 QG (hiz), 7 QH (hiz), 8 GND (power), 9 QH' (out), 10 ~{SRCLR} (in), 11 SRCLK (in), 12 RCLK (in), 13 ~{OE} (in), 14 SER (in), 15 QA (hiz), 16 VCC (power)

## SN74LVC1G04DBVR
designator U?, comment SN74LVC1G04
NOT; DefaultOrder: SN74LVC1G04DBVR; OriginalSource: AltTab; Order: *
footprint SOT23-5
pins: 2, 3 GND, 4, 5 VCC

## SN74LVC1G07DBV
designator U?, comment SN74LVC1G07
Open Drain Driver; OriginalSource: AltTab; Order: *
pins: 1 NC, 2 A (in), 3 GND (power), 4 Y (out), 5 VCC (power)

## SN74LVC1G08DCKR
designator U?, comment SN74LVC1G08
AND; DefaultOrder: SN74LVC1G08DBVR; OriginalSource: AltTab; Order: *
footprint SOT23-5
pins: 1, 2, 3 GND, 4, 5 VCC

## SN74LVC2G00DCTR
designator U?
2x(NOT(AND)); OriginalSource: AltTab; DefaultOrder: SN74LVC2G00DCTR; Order: *
pins: 1, 2, 3, 4 GND, 5, 6, 7, 8 VCC

## SN74LVC07A
designator DD?
Hex Buffer and Driver With Open-Drain Outputs; Order: *SN74LVC07APWR; DefaultOrder: SN74LVC07APWR; ComponentLink1Description: Datasheet; ComponentLink1URL: https://doc.platan.ru/pdf/datasheets/ti/SN74LVC07A.pdf
footprint SO-14
footprint TSSOP-14
pins: 1 1A (in), 2 1Y (oc), 3 2A (in), 4 2Y (oc), 5 3A (in), 6 3Y (oc), 7 GND (power), 8 4Y (oc), 9 4A (in), 10 5Y (oc), 11 5A (in), 12 6Y (oc), 13 6A (in), 14 VCC (power)

## SST25VF016B-75-4I-S2AF
designator DD?, comment SST25VF016B
memory 16mbit; DefaultOrder: SST25VF016B-75-4I-S2AF; OriginalSource: AltTab; Order: *
footprint SO-8 (Small Outline; 8 Leads; Body Width 3.9 mm; Pitch 1.27 mm)
pins: 1 CE, 2 DO, 3 WP, 4 VSS, 5 DI, 6 SCK, 7 HOLD, 8 VDD

## ST32F100R4
designator DD?, comment STM32F100R4
LQFP64; OriginalSource: AltTab; DefaultOrder: *; Order: *
footprint LQFP64
pins: 1 VBAT (power), 2 PC13-TAMPER-RTC (io), 3 PC14-OSC32_IN (io), 4 PC15-OSC32_OUT (io), 5 OSC_IN (in), 6 OSC_OUT (out), 7 NRST (io), 8 PC0 (io), 9 PC1 (io), 10 PC2 (io), 11 PC3 (io), 12 VSSA (power), 13 VDDA (power), 14 PA0_WKUP (io), 15 PA1 (io), 16 PA2 (io), 17 PA3 (io), 18 VSS_4 (power), 19 VDD_4 (power), 20 PA4 (io), 21 PA5 (io), 22 PA6 (io), 23 PA7 (io), 24 PC4 (io), 25 PC5 (io), 26 PB0 (io), 27 PB1 (io), 28 PB2 (io), 29 PB10 (io), 30 PB11 (io), 31 VSS_1 (power), 32 VDD_1 (power), 33 PB12 (io), 34 PB13 (io), 35 PB14 (io), 36 PB15 (io), 37 PC6 (io), 38 PC7 (io), 39 PC8 (io), 40 PC9 (io), 41 PA8 (io), 42 PA9 (io), 43 PA10 (io), 44 PA11 (io), 45 PA12 (io), 46 PA13 (io), 47 VSS_2 (power), 48 VDD_2 (power), 49 PA14 (io), 50 PA15 (io), 51 PC10 (io), 52 PC11 (io), 53 PC12 (io), 54 PD2 (io), 55 PB3 (io), 56 PB4 (io), 57 PB5 (io), 58 PB6 (io), 59 PB7 (io), 60 BOOT0 (in), 61 PB8 (io), 62 PB9 (io), 63 VSS_3 (power), 64 VDD_3 (power)

## STM32F030F4
designator DD?
32bit ARM based MCU; OriginalSource: AltTab; Order: *
footprint TSSOP-20
pins: 1 BOOT0, 2 PF0-OSCIN, 3 PF1-OSCOUT, 4 NRST, 5 VDDA, 6 PA0, 7 PA1, 8 PA2, 9 PA3, 10 PA4, 11 PA5, 12 PA6, 13 PA7, 14 PB1, 15 VSS, 16 VDD, 17 PA9, 18 PA10, 19 PA13, 20 PA14

## STM32F40x (100)
designator DD?, comment STM32F407VET6
32 ARM microcontroller; OriginalSource: AltTab; DefaultOrder: STM32F407VET6; Order: *
footprint LQFP100 (Footprint not found)
part A pins: 1 PE2, 2 PE3, 3 PE4, 4 PE5, 5 PE6, 7 PC13, 8 PC14, 9 PC15, 12 PH0, 13 PH1, 14 NRST, 15 PC0, 16 PC1, 17 PC2, 18 PC3, 23 PA0, 24 PA1, 25 PA2, 26 PA3, 29 PA4, 30 PA5, 31 PA6, 32 PA7, 33 PC4, 34 PC5, 35 PB0, 36 PB1, 37 PB2, 38 PE7, 39 PE8, 40 PE9, 41 PE10, 42 PE11, 43 PE12, 44 PE13, 45 PE14, 46 PE15, 47 PB10, 48 PB11, 51 PB12, 52 PB13, 53 PB14, 54 PB15, 55 PD8, 56 PD9, 57 PD10, 58 PD11, 59 PD12, 60 PD13, 61 PD14, 62 PD15, 63 PC6, 64 PC7, 65 PC8, 66 PC9, 67 PA8, 68 PA9, 69 PA10, 70 PA11, 71 PA12, 72 PA13 (SWDIO), 76 PA14(SWCLK), 77 PA15(JTDI), 78 PC10, 79 PC11, 80 PC12, 81 PD0, 82 PD1, 83 PD2, 84 PD3, 85 PD4, 86 PD5, 87 PD6, 88 PD7, 89 PB3(JTDO), 90 PB4(NJRST), 91 PB5, 92 PB6, 93 PB7, 94 BOOT0, 95 PB8, 96 PB9, 97 PE0, 98 PE1
part B pins: 6 VBAT, 10 VSS, 11 VDD5, 19 VDD12, 20 VSSA, 21 VREF+, 22 VDDA, 27 VSS, 28 VDD4, 49 VCAP_1, 50 VDD1, 73 VCAP_2, 74 VSS, 75 VDD2, 99 VSS, 100 VDD3

## STM32F100Cx
designator DD?
OriginalSource: AltTab; Order: *
footprint LQFP48 (48-Pin Thin Quad Flat Pack 0.5 mm Pitch, IPC High Density)
part A pins: 2 PC13-TAMPER-RTC, 3 PC14-OSC32_IN, 4 PC15-OSC32_OUT, 5 OSC_IN, 6 OSC_OUT, 10 PA0-WKUP, 11 PA1, 12 PA2, 13 PA3, 14 PA4, 15 PA5, 16 PA6, 17 PA7, 18 PB0, 19 PB1, 20 PB2, 21 PB10, 22 PB11, 25 PB12, 26 PB13, 27 PB14, 28 PB15, 29 PA8, 30 PA9, 31 PA10, 32 PA11, 33 PA12, 34 PA13, 37 PA14, 38 PA15, 39 PB3, 40 PB4, 41 PB5, 42 PB6, 43 PB7, 45 PB8, 46 PB9
part B pins: 1 VBAT, 7 NRST, 8 Vssa, 9 Vdda, 23 Vss_1, 24 Vdd_1, 35 Vss_2, 36 Vdd_2, 44 BOOT0, 47 Vss_3, 48 Vdd_3

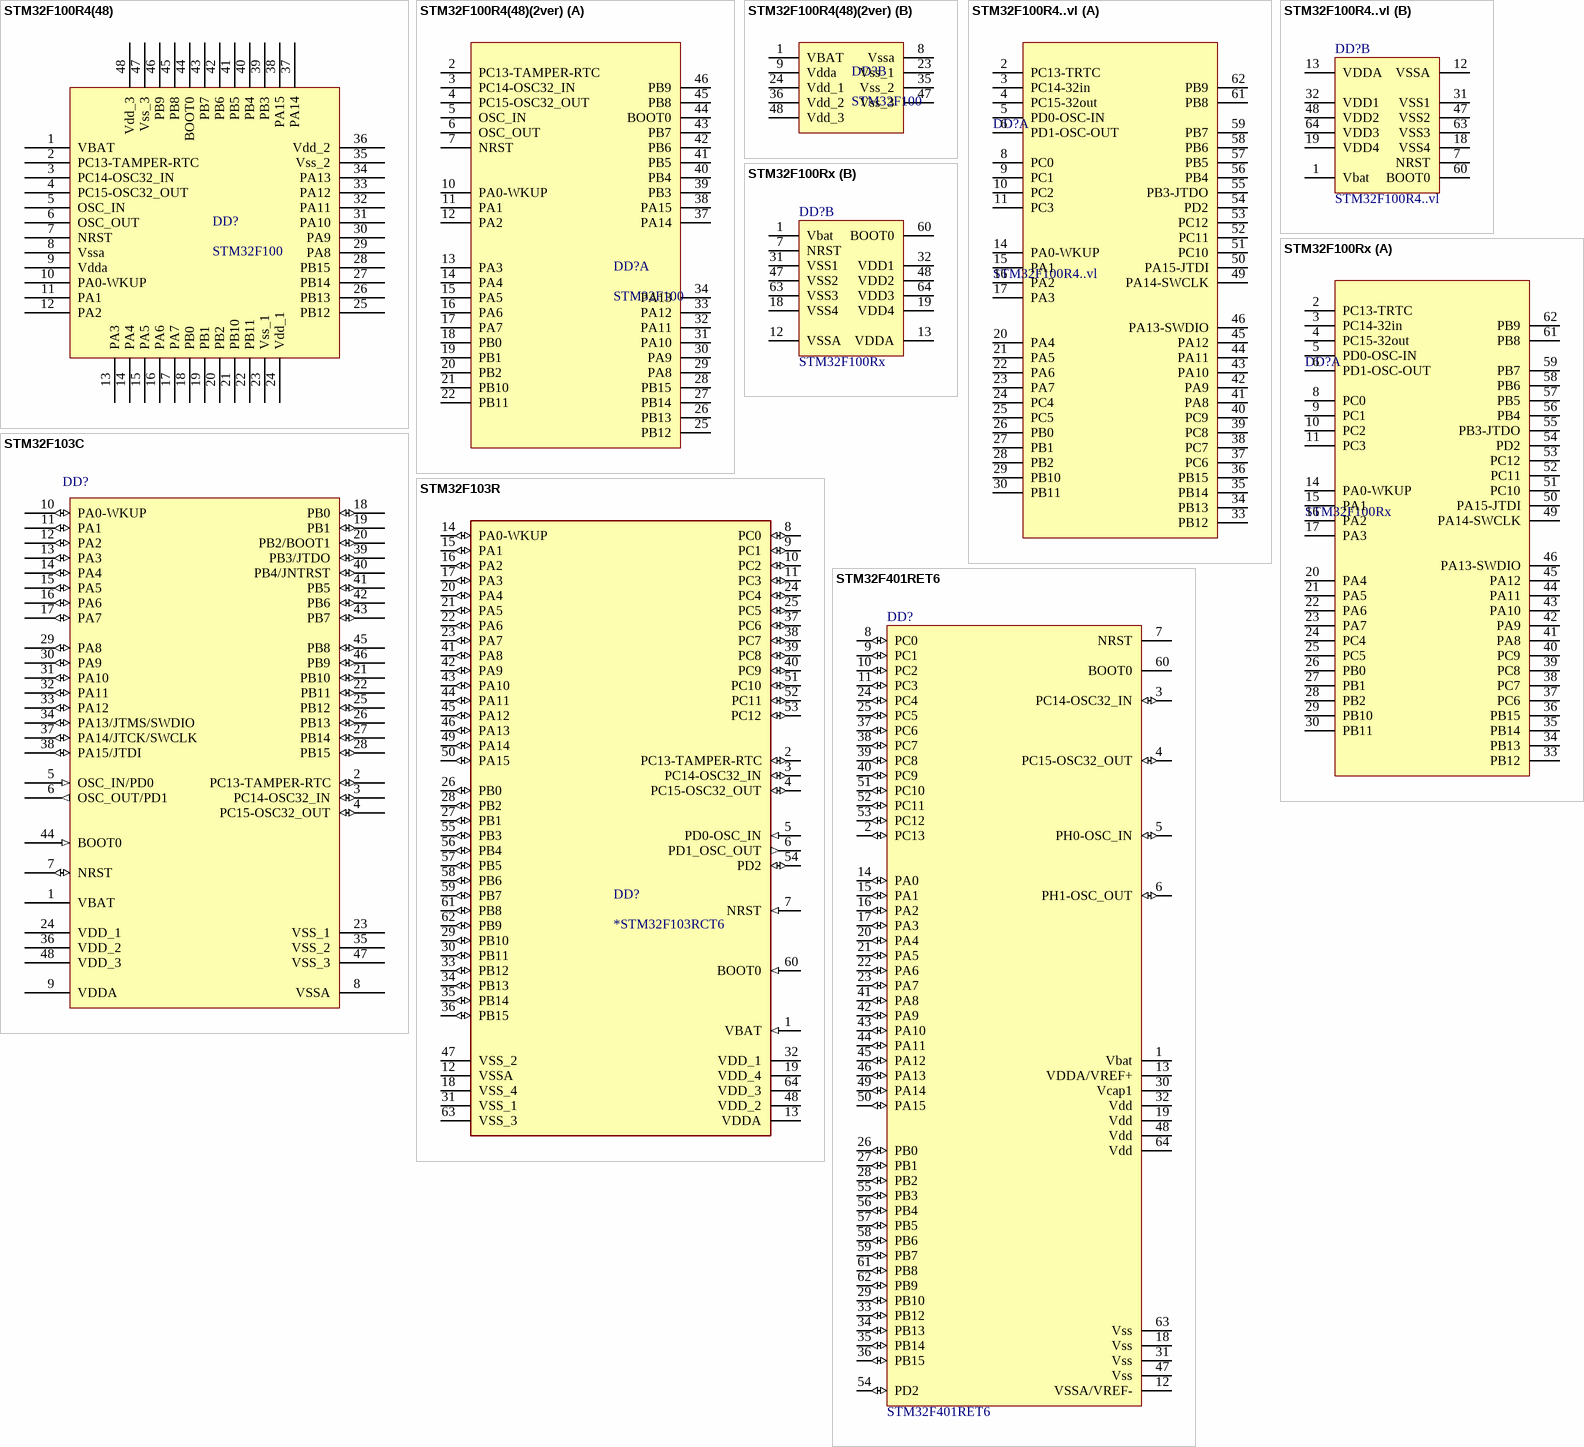
[diagram p4: symbols STM32F100R4(48) to STM32F401RET6]

## STM32F100R4(48)
designator DD?, comment STM32F100
STM 32-bit microcontroller; OriginalSource: AltTab; Order: *
footprint TQFP48_L (48-Pin Thin Quad Flat Pack 0.5 mm Pitch, IPC High Density)
pins: 1 VBAT, 2 PC13-TAMPER-RTC, 3 PC14-OSC32_IN, 4 PC15-OSC32_OUT, 5 OSC_IN, 6 OSC_OUT, 7 NRST, 8 Vssa, 9 Vdda, 10 PA0-WKUP, 11 PA1, 12 PA2, 13 PA3, 14 PA4, 15 PA5, 16 PA6, 17 PA7, 18 PB0, 19 PB1, 20 PB2, 21 PB10, 22 PB11, 23 Vss_1, 24 Vdd_1, 25 PB12, 26 PB13, 27 PB14, 28 PB15, 29 PA8, 30 PA9, 31 PA10, 32 PA11, 33 PA12, 34 PA13, 35 Vss_2, 36 Vdd_2, 37 PA14, 38 PA15, 39 PB3, 40 PB4, 41 PB5, 42 PB6, 43 PB7, 44 BOOT0, 45 PB8, 46 PB9, 47 Vss_3, 48 Vdd_3

## STM32F100R4(48)(2ver)
designator DD?, comment STM32F100
STM 32-bit microcontroller; DefaultOrder: STM32F100Cxx; OriginalSource: AltTab; Order: *
footprint TQFP48_L (48-Pin Thin Quad Flat Pack 0.5 mm Pitch, IPC High Density)
part A pins: 2 PC13-TAMPER-RTC, 3 PC14-OSC32_IN, 4 PC15-OSC32_OUT, 5 OSC_IN, 6 OSC_OUT, 7 NRST, 10 PA0-WKUP, 11 PA1, 12 PA2, 13 PA3, 14 PA4, 15 PA5, 16 PA6, 17 PA7, 18 PB0, 19 PB1, 20 PB2, 21 PB10, 22 PB11, 25 PB12, 26 PB13, 27 PB14, 28 PB15, 29 PA8, 30 PA9, 31 PA10, 32 PA11, 33 PA12, 34 PA13, 37 PA14, 38 PA15, 39 PB3, 40 PB4, 41 PB5, 42 PB6, 43 PB7, 44 BOOT0, 45 PB8, 46 PB9
part B pins: 1 VBAT, 8 Vssa, 9 Vdda, 23 Vss_1, 24 Vdd_1, 35 Vss_2, 36 Vdd_2, 47 Vss_3, 48 Vdd_3

## STM32F100R4..vl
designator DD?
32-bit ST microcontroller; OriginalSource: AltTab; Order: *
footprint LQFP64 (Footprint not found)
part A pins: 2 PC13-TRTC, 3 PC14-32in, 4 PC15-32out, 5 PD0-OSC-IN, 6 PD1-OSC-OUT, 8 PC0, 9 PC1, 10 PC2, 11 PC3, 14 PA0-WKUP, 15 PA1, 16 PA2, 17 PA3, 20 PA4, 21 PA5, 22 PA6, 23 PA7, 24 PC4, 25 PC5, 26 PB0, 27 PB1, 28 PB2, 29 PB10, 30 PB11, 33 PB12, 34 PB13, 35 PB14, 36 PB15, 37 PC6, 38 PC7, 39 PC8, 40 PC9, 41 PA8, 42 PA9, 43 PA10, 44 PA11, 45 PA12, 46 PA13-SWDIO, 49 PA14-SWCLK, 50 PA15-JTDI, 51 PC10, 52 PC11, 53 PC12, 54 PD2, 55 PB3-JTDO, 56 PB4, 57 PB5, 58 PB6, 59 PB7, 61 PB8, 62 PB9
part B pins: 1 Vbat, 7 NRST, 12 VSSA, 13 VDDA, 18 VSS4, 19 VDD4, 31 VSS1, 32 VDD1, 47 VSS2, 48 VDD2, 60 BOOT0, 63 VSS3, 64 VDD3

## STM32F100Rx
designator DD?
32-bit ST microcontroller; DefaultOrder: STM32F100R8; OriginalSource: AltTab; Order: *
footprint LQFP64 (Footprint not found)
part A pins: 2 PC13-TRTC, 3 PC14-32in, 4 PC15-32out, 5 PD0-OSC-IN, 6 PD1-OSC-OUT, 8 PC0, 9 PC1, 10 PC2, 11 PC3, 14 PA0-WKUP, 15 PA1, 16 PA2, 17 PA3, 20 PA4, 21 PA5, 22 PA6, 23 PA7, 24 PC4, 25 PC5, 26 PB0, 27 PB1, 28 PB2, 29 PB10, 30 PB11, 33 PB12, 34 PB13, 35 PB14, 36 PB15, 37 PC6, 38 PC7, 39 PC8, 40 PC9, 41 PA8, 42 PA9, 43 PA10, 44 PA11, 45 PA12, 46 PA13-SWDIO, 49 PA14-SWCLK, 50 PA15-JTDI, 51 PC10, 52 PC11, 53 PC12, 54 PD2, 55 PB3-JTDO, 56 PB4, 57 PB5, 58 PB6, 59 PB7, 61 PB8, 62 PB9
part B pins: 1 Vbat, 7 NRST, 12 VSSA, 13 VDDA, 18 VSS4, 19 VDD4, 31 VSS1, 32 VDD1, 47 VSS2, 48 VDD2, 60 BOOT0, 63 VSS3, 64 VDD3

## STM32F103C
designator DD?
STM32 ARM-based 32-bit MCU with 64 Kbytes Flash, 48-pin LQFP, Industrial Temperature; Order: *STM32F103C8T6; HelpURL: http://www.st.com/stonline/products/literature/ds/13587.pdf
footprint LQFP-48 (48-Pin Thin Quad Flat Pack 0.5 mm Pitch, IPC High Density)
footprint LQFP48_L (Thin QFP, 48-Leads, Body 7x7mm, Pitch 0.5mm, IPC High Density)
footprint LQFP48_M (Thin QFP, 48-Leads, Body 7x7mm, Pitch 0.5mm, IPC Low Density)
pins: 1 VBAT (power), 2 PC13-TAMPER-RTC (io), 3 PC14-OSC32_IN (io), 4 PC15-OSC32_OUT (io), 5 OSC_IN/PD0 (in), 6 OSC_OUT/PD1 (out), 7 NRST (io), 8 VSSA (power), 9 VDDA (power), 10 PA0-WKUP (io), 11 PA1 (io), 12 PA2 (io), 13 PA3 (io), 14 PA4 (io), 15 PA5 (io), 16 PA6 (io), 17 PA7 (io), 18 PB0 (io), 19 PB1 (io), 20 PB2/BOOT1 (io), 21 PB10 (io), 22 PB11 (io), 23 VSS_1 (power), 24 VDD_1 (power), 25 PB12 (io), 26 PB13 (io), 27 PB14 (io), 28 PB15 (io), 29 PA8 (io), 30 PA9 (io), 31 PA10 (io), 32 PA11 (io), 33 PA12 (io), 34 PA13/JTMS/SWDIO (io), 35 VSS_2 (power), 36 VDD_2 (power), 37 PA14/JTCK/SWCLK (io), 38 PA15/JTDI (io), 39 PB3/JTDO (io), 40 PB4/JNTRST (io), 41 PB5 (io), 42 PB6 (io), 43 PB7 (io), 44 BOOT0 (in), 45 PB8 (io), 46 PB9 (io), 47 VSS_3 (power), 48 VDD_3 (power)

## STM32F103R
designator DD?, comment *STM32F103RCT6
ARM Cortex-M3 STM32F1 Microcontroller IC 32-Bit 72MHz 256KB (256K x 8) FLASH 64-LQFP (10x10); Order: *STM32F103RCT6
footprint LQFP-64
pins: 1 VBAT (in), 2 PC13-TAMPER-RTC (io), 3 PC14-OSC32_IN (io), 4 PC15-OSC32_OUT (io), 5 PD0-OSC_IN (in), 6 PD1_OSC_OUT (out), 7 NRST (in), 8 PC0 (io), 9 PC1 (io), 10 PC2 (io), 11 PC3 (io), 12 VSSA (power), 13 VDDA (power), 14 PA0-WKUP (io), 15 PA1 (io), 16 PA2 (io), 17 PA3 (io), 18 VSS_4 (power), 19 VDD_4 (power), 20 PA4 (io), 21 PA5 (io), 22 PA6 (io), 23 PA7 (io), 24 PC4 (io), 25 PC5 (io), 26 PB0 (io), 27 PB1 (io), 28 PB2 (io), 29 PB10 (io), 30 PB11 (io), 31 VSS_1 (power), 32 VDD_1 (power), 33 PB12 (io), 34 PB13 (io), 35 PB14 (io), 36 PB15 (io), 37 PC6 (io), 38 PC7 (io), 39 PC8 (io), 40 PC9 (io), 41 PA8 (io), 42 PA9 (io), 43 PA10 (io), 44 PA11 (io), 45 PA12 (io), 46 PA13 (io), 47 VSS_2 (power), 48 VDD_2 (power), 49 PA14 (io), 50 PA15 (io), 51 PC10 (io), 52 PC11 (io), 53 PC12 (io), 54 PD2 (io), 55 PB3 (io), 56 PB4 (io), 57 PB5 (io), 58 PB6 (io), 59 PB7 (io), 60 BOOT0 (in), 61 PB8 (io), 62 PB9 (io), 63 VSS_3 (power), 64 VDD_3 (power)

## STM32F401RET6
designator DD?
32-bit STmicroelectronics MCU; OriginalSource: CanSat_v0.1; Order: *; DefaultOrder: STM32F401RET6
footprint STM-LQFP64_L
footprint QFP50P1200X1200X160-64N_1
pins: 1 Vbat (power), 2 PC13 (io), 3 PC14-OSC32_IN (io), 4 PC15-OSC32_OUT (io), 5 PH0-OSC_IN (io), 6 PH1-OSC_OUT (io), 7 NRST (power), 8 PC0 (io), 9 PC1 (io), 10 PC2 (io), 11 PC3 (io), 12 VSSA/VREF- (power), 13 VDDA/VREF+ (power), 14 PA0 (io), 15 PA1 (io), 16 PA2 (io), 17 PA3 (io), 18 Vss (power), 19 Vdd (power), 20 PA4 (io), 21 PA5 (io), 22 PA6 (io), 23 PA7 (io), 24 PC4 (io), 25 PC5 (io), 26 PB0 (io), 27 PB1 (io), 28 PB2 (io), 29 PB10 (io), 30 Vcap1 (power), 31 Vss (power), 32 Vdd (power), 33 PB12 (io), 34 PB13 (io), 35 PB14 (io), 36 PB15 (io), 37 PC6 (io), 38 PC7 (io), 39 PC8 (io), 40 PC9 (io), 41 PA8 (io), 42 PA9 (io), 43 PA10 (io), 44 PA11 (io), 45 PA12 (io), 46 PA13 (io), 47 Vss (power), 48 Vdd (power), 49 PA14 (io), 50 PA15 (io), 51 PC10 (io), 52 PC11 (io), 53 PC12 (io), 54 PD2 (io), 55 PB3 (io), 56 PB4 (io), 57 PB5 (io), 58 PB6 (io), 59 PB7 (io), 60 BOOT0 (power), 61 PB8 (io), 62 PB9 (io), 63 Vss (power), 64 Vdd (power)

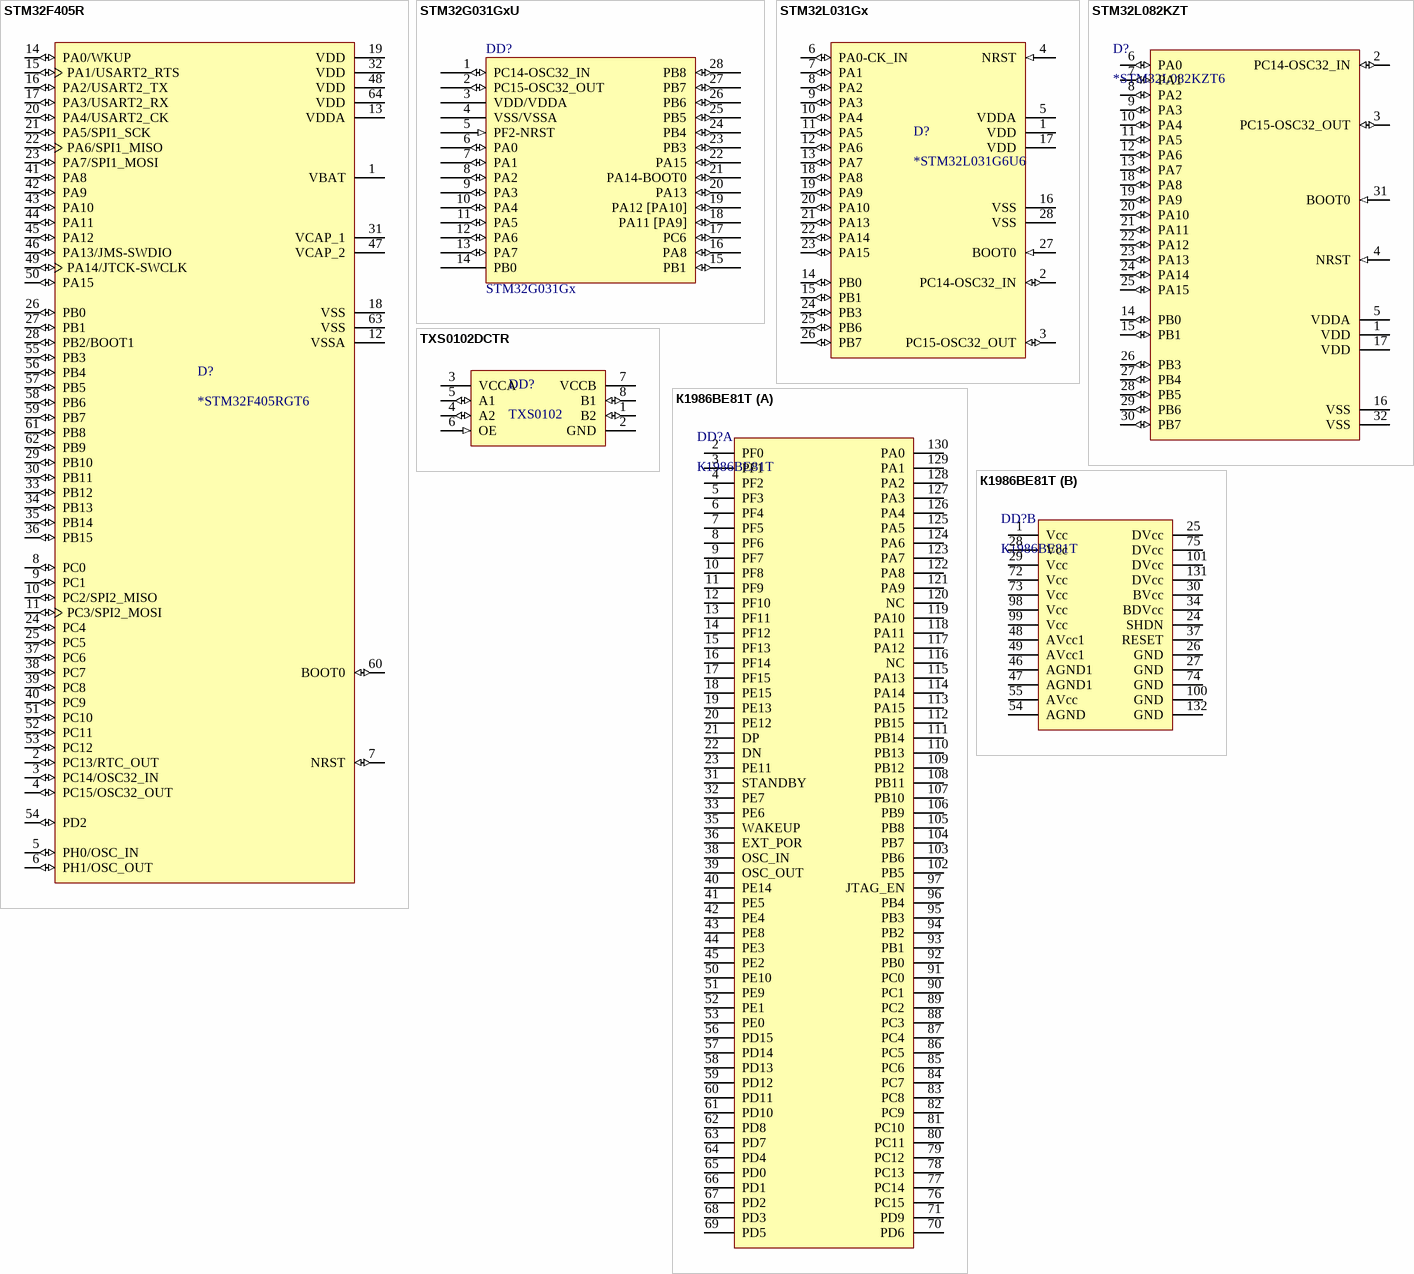
[diagram p5: symbols STM32F405R to К1986ВЕ81T]

## STM32F405R
designator D?, comment *STM32F405RGT6
ARM Cortex-M4 STM32F4 Microcontroller IC 32-Bit Single-Core 168MHz 1MB (1M x 8) FLASH 64-LQFP (10x10); Order: *STM32F405RGT6
footprint LQFP-64
pins: 1 VBAT (power), 2 PC13/RTC_OUT (io), 3 PC14/OSC32_IN (io), 4 PC15/OSC32_OUT (io), 5 PH0/OSC_IN (io), 6 PH1/OSC_OUT (io), 7 NRST (io), 8 PC0 (io), 9 PC1 (io), 10 PC2/SPI2_MISO (io), 11 PC3/SPI2_MOSI (io), 12 VSSA (power), 13 VDDA (power), 14 PA0/WKUP (io), 15 PA1/USART2_RTS (io), 16 PA2/USART2_TX (io), 17 PA3/USART2_RX (io), 18 VSS (power), 19 VDD (power), 20 PA4/USART2_CK (io), 21 PA5/SPI1_SCK (io), 22 PA6/SPI1_MISO (io), 23 PA7/SPI1_MOSI (io), 24 PC4 (io), 25 PC5 (io), 26 PB0 (io), 27 PB1 (io), 28 PB2/BOOT1 (io), 29 PB10 (io), 30 PB11 (io), 31 VCAP_1 (power), 32 VDD (power), 33 PB12 (io), 34 PB13 (io), 35 PB14 (io), 36 PB15 (io), 37 PC6 (io), 38 PC7 (io), 39 PC8 (io), 40 PC9 (io), 41 PA8 (io), 42 PA9 (io), 43 PA10 (io), 44 PA11 (io), 45 PA12 (io), 46 PA13/JMS-SWDIO (io), 47 VCAP_2 (power), 48 VDD (power), 49 PA14/JTCK-SWCLK (io), 50 PA15 (io), 51 PC10 (io), 52 PC11 (io), 53 PC12 (io), 54 PD2 (io), 55 PB3 (io), 56 PB4 (io), 57 PB5 (io), 58 PB6 (io), 59 PB7 (io), 60 BOOT0 (io), 61 PB8 (io), 62 PB9 (io), 63 VSS (power), 64 VDD (power)

## STM32G031GxU
designator DD?, comment STM32G031Gx
Order: STM32G031Gx
footprint UFQFPN28 (STM32) (QFN, 28-Leads, Body 4,00x4,00mm, Pitch 0,50mm, IPC Medium Density)
pins: 1 PC14-OSC32_IN (io), 2 PC15-OSC32_OUT (io), 3 VDD/VDDA (power), 4 VSS/VSSA (power), 5 PF2-NRST (in), 6 PA0 (io), 7 PA1 (io), 8 PA2 (io), 9 PA3 (io), 10 PA4 (io), 11 PA5 (io), 12 PA6 (io), 13 PA7 (io), 14 PB0, 15 PB1 (io), 16 PA8 (io), 17 PC6 (io), 18 PA11 [PA9] (io), 19 PA12 [PA10] (io), 20 PA13 (io), 21 PA14-BOOT0 (io), 22 PA15 (io), 23 PB3 (io), 24 PB4 (io), 25 PB5 (io), 26 PB6 (io), 27 PB7 (io), 28 PB8 (io)

## STM32L031Gx
designator D?, comment *STM32L031G6U6
ARM Cortex-M0+ STM32L0 Microcontroller IC 32-Bit Single-Core 32MHz 28-UFQFPN; Order: *STM32L031G6U6
footprint UFQFPN28 (STM32) (QFN, 28-Leads, Body 4,00x4,00mm, Pitch 0,50mm, IPC Medium Density)
pins: 1 VDD (power), 2 PC14-OSC32_IN (io), 3 PC15-OSC32_OUT (io), 4 NRST (in), 5 VDDA (power), 6 PA0-CK_IN (io), 7 PA1 (io), 8 PA2 (io), 9 PA3 (io), 10 PA4 (io), 11 PA5 (io), 12 PA6 (io), 13 PA7 (io), 14 PB0 (io), 15 PB1 (io), 16 VSS (power), 17 VDD (power), 18 PA8 (io), 19 PA9 (io), 20 PA10 (io), 21 PA13 (io), 22 PA14 (io), 23 PA15 (io), 24 PB3 (io), 25 PB6 (io), 26 PB7 (io), 27 BOOT0 (in), 28 VSS (power)

## STM32L082KZT
designator D?, comment *STM32L082KZT6
Ultra-low-power 32-bit MCU USB, ADC, DACs, AES; Order: *STM32L082KZT6
footprint LQFP-32 (Thin QFP, 32-Leads, Body 7x7mm, Pitch 0.8mm, IPC Medium Density)
pins: 1 VDD (power), 2 PC14-OSC32_IN (io), 3 PC15-OSC32_OUT (io), 4 NRST (in), 5 VDDA (power), 6 PA0 (io), 7 PA1 (io), 8 PA2 (io), 9 PA3 (io), 10 PA4 (io), 11 PA5 (io), 12 PA6 (io), 13 PA7 (io), 14 PB0 (io), 15 PB1 (io), 16 VSS (power), 17 VDD (power), 18 PA8 (io), 19 PA9 (io), 20 PA10 (io), 21 PA11 (io), 22 PA12 (io), 23 PA13 (io), 24 PA14 (io), 25 PA15 (io), 26 PB3 (io), 27 PB4 (io), 28 PB5 (io), 29 PB6 (io), 30 PB7 (io), 31 BOOT0 (in), 32 VSS (power)

## TXS0102DCTR
designator DD?, comment TXS0102
DefaultOrder: TXS0102DCTR; OriginalSource: AltTab; Order: *
pins: 1 B2 (io), 2 GND (power), 3 VCCA (power), 4 A2 (io), 5 A1 (io), 6 OE (in), 7 VCCB (power), 8 B1 (io)

## К1986ВЕ81T
designator DD?
MCU; OriginalSource: AltTab; Order: *
part A pins: 2 PF0, 3 PF1, 4 PF2, 5 PF3, 6 PF4, 7 PF5, 8 PF6, 9 PF7, 10 PF8, 11 PF9, 12 PF10, 13 PF11, 14 PF12, 15 PF13, 16 PF14, 17 PF15, 18 PE15, 19 PE13, 20 PE12, 21 DP, 22 DN, 23 PE11, 31 STANDBY, 32 PE7, 33 PE6, 35 WAKEUP, 36 EXT_POR, 38 OSC_IN, 39 OSC_OUT, 40 PE14, 41 PE5, 42 PE4, 43 PE8, 44 PE3, 45 PE2, 50 PE10, 51 PE9, 52 PE1, 53 PE0, 56 PD15, 57 PD14, 58 PD13, 59 PD12, 60 PD11, 61 PD10, 62 PD8, 63 PD7, 64 PD4, 65 PD0, 66 PD1, 67 PD2, 68 PD3, 69 PD5, 70 PD6, 71 PD9, 76 PC15, 77 PC14, 78 PC13, 79 PC12, 80 PC11, 81 PC10, 82 PC9, 83 PC8, 84 PC7, 85 PC6, 86 PC5, 87 PC4, 88 PC3, 89 PC2, 90 PC1, 91 PC0, 92 PB0, 93 PB1, 94 PB2, 95 PB3, 96 PB4, 97 JTAG_EN, 102 PB5, 103 PB6, 104 PB7, 105 PB8, 106 PB9, 107 PB10, 108 PB11, 109 PB12, 110 PB13, 111 PB14, 112 PB15, 113 PA15, 114 PA14, 115 PA13, 116 NC, 117 PA12, 118 PA11, 119 PA10, 120 NC, 121 PA9, 122 PA8, 123 PA7, 124 PA6, 125 PA5, 126 PA4, 127 PA3, 128 PA2, 129 PA1, 130 PA0
part B pins: 1 Vcc, 24 SHDN, 25 DVcc, 26 GND, 27 GND, 28 Vcc, 29 Vcc, 30 BVcc, 34 BDVcc, 37 RESET, 46 AGND1, 47 AGND1, 48 AVcc1, 49 AVcc1, 54 AGND, 55 AVcc, 72 Vcc, 73 Vcc, 74 GND, 75 DVcc, 98 Vcc, 99 Vcc, 100 GND, 101 DVcc, 131 DVcc, 132 GND

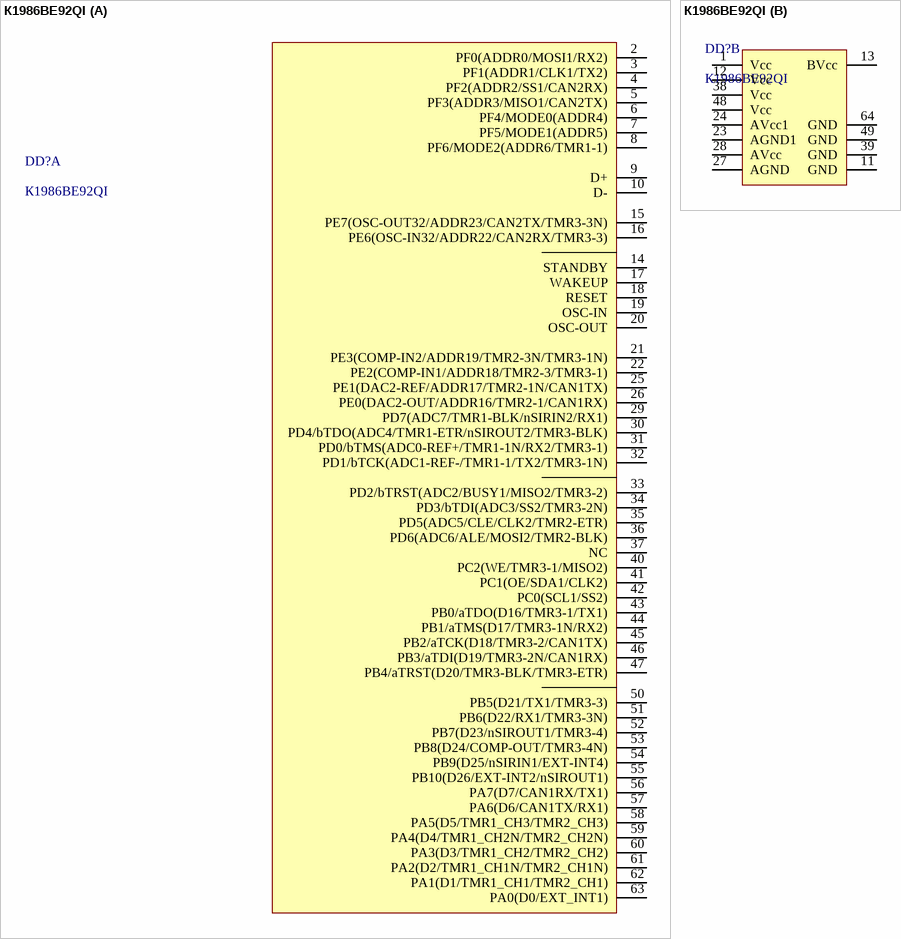
[diagram p6: symbol К1986ВЕ92QI]

## К1986ВЕ92QI
designator DD?
MCU; OriginalSource: AltTab; Order: *
part A pins: 2 PF0(ADDR0/MOSI1/RX2), 3 PF1(ADDR1/CLK1/TX2), 4 PF2(ADDR2/SS1/CAN2RX), 5 PF3(ADDR3/MISO1/CAN2TX), 6 PF4/MODE0(ADDR4), 7 PF5/MODE1(ADDR5), 8 PF6/MODE2(ADDR6/TMR1-1), 9 D+, 10 D-, 14 STANDBY, 15 PE7(OSC-OUT32/ADDR23/CAN2TX/TMR3-3N), 16 PE6(OSC-IN32/ADDR22/CAN2RX/TMR3-3), 17 WAKEUP, 18 RESET, 19 OSC-IN, 20 OSC-OUT, 21 PE3(COMP-IN2/ADDR19/TMR2-3N/TMR3-1N), 22 PE2(COMP-IN1/ADDR18/TMR2-3/TMR3-1), 25 PE1(DAC2-REF/ADDR17/TMR2-1N/CAN1TX), 26 PE0(DAC2-OUT/ADDR16/TMR2-1/CAN1RX), 29 PD7(ADC7/TMR1-BLK/nSIRIN2/RX1), 30 PD4/bTDO(ADC4/TMR1-ETR/nSIROUT2/TMR3-BLK), 31 PD0/bTMS(ADC0-REF+/TMR1-1N/RX2/TMR3-1), 32 PD1/bTCK(ADC1-REF-/TMR1-1/TX2/TMR3-1N), 33 PD2/bTRST(ADC2/BUSY1/MISO2/TMR3-2), 34 PD3/bTDI(ADC3/SS2/TMR3-2N), 35 PD5(ADC5/CLE/CLK2/TMR2-ETR), 36 PD6(ADC6/ALE/MOSI2/TMR2-BLK), 37 NC, 40 PC2(WE/TMR3-1/MISO2), 41 PC1(OE/SDA1/CLK2), 42 PC0(SCL1/SS2), 43 PB0/aTDO(D16/TMR3-1/TX1), 44 PB1/aTMS(D17/TMR3-1N/RX2), 45 PB2/aTCK(D18/TMR3-2/CAN1TX), 46 PB3/aTDI(D19/TMR3-2N/CAN1RX), 47 PB4/aTRST(D20/TMR3-BLK/TMR3-ETR), 50 PB5(D21/TX1/TMR3-3), 51 PB6(D22/RX1/TMR3-3N), 52 PB7(D23/nSIROUT1/TMR3-4), 53 PB8(D24/COMP-OUT/TMR3-4N), 54 PB9(D25/nSIRIN1/EXT-INT4), 55 PB10(D26/EXT-INT2/nSIROUT1), 56 PA7(D7/CAN1RX/TX1), 57 PA6(D6/CAN1TX/RX1), 58 PA5(D5/TMR1_CH3/TMR2_CH3), 59 PA4(D4/TMR1_CH2N/TMR2_CH2N), 60 PA3(D3/TMR1_CH2/TMR2_CH2), 61 PA2(D2/TMR1_CH1N/TMR2_CH1N), 62 PA1(D1/TMR1_CH1/TMR2_CH1), 63 PA0(D0/EXT_INT1)
part B pins: 1 Vcc, 11 GND, 12 Vcc, 13 BVcc, 23 AGND1, 24 AVcc1, 27 AGND, 28 AVcc, 38 Vcc, 39 GND, 48 Vcc, 49 GND, 64 GND